# Altium integrated library ST Microcontroller 8-Bit.IntLib: 1326 symbols (part 42 of 45)
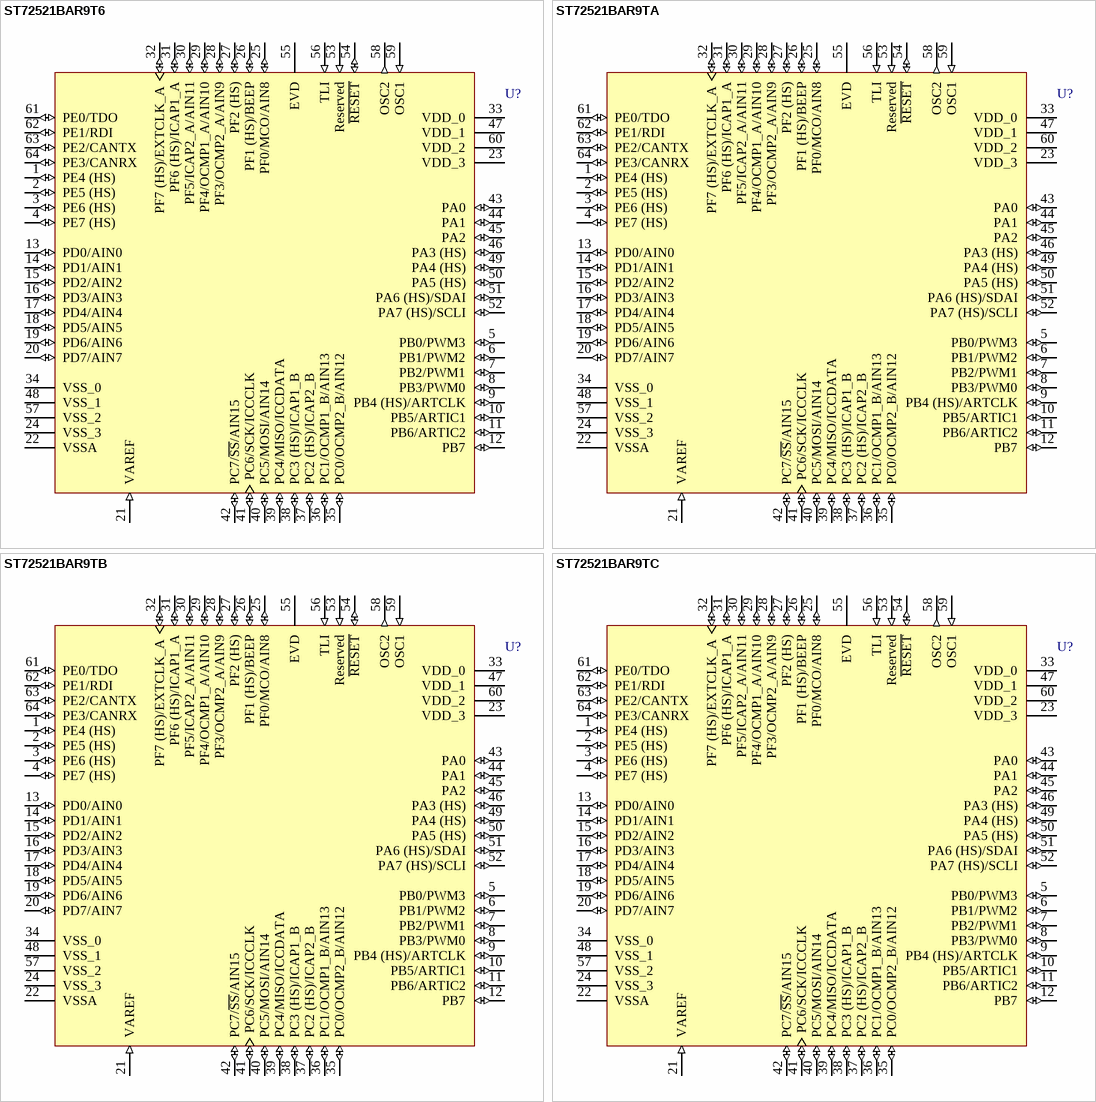
[diagram p208: symbols ST72521BAR9T6 to ST72521BAR9TC]

## ST72521BAR9T6
designator U?
8-Bit MCU with 60k ROM, 2048b RAM, Five Timers, SPI, SCI, I²C and CAN Interfaces, 64-Pin TQFP, Standard; Note: Pins 5-12, 25-27 and 43-46 are External Interrupt (EI) pins.; Note: Pin # 53 (Reserved) must be tied low.; Published: 26-May-2004; LatestRevisionDate: 13-Apr-2006; LatestRevisionNote: IPC-7351 Footprint Added.; DatasheetVersion: rev1.1, Oct-2003; PackageVersion: Jun-2003; PackageReference: TQFP64; Publisher: Altium Limited; PackageDescription: 64-Pin Thin Quad Flat Pack 0.5 mm Pitch; Code_JEDEC: MS-026; ComponentLink1Description: Manufacturer Link; ComponentLink1URL: http://www.st.com/; ComponentLink2Description: Datasheet; ComponentLink2URL: http://www.st.com/stonline/products/literature/ds/7601/st72521b.pdf
footprint TQFP64_N (Thin QFP, 64-Leads, Body 10x10mm, Pitch 0.5mm, IPC Medium Density)
footprint TQFP64_L (Thin QFP, 64-Leads, Body 10x10mm, Pitch 0.5mm, IPC High Density)
footprint TQFP64_M (Thin QFP, 64-Leads, Body 10x10mm, Pitch 0.5mm, IPC Low Density)
3D model ST72521B-TQFP64 (64-Pin Thin Quad Flat Pack 0.5 mm Pitch)
pins: 1 PE4 (HS) (io), 2 PE5 (HS) (io), 3 PE6 (HS) (io), 4 PE7 (HS) (io), 5 PB0/PWM3 (io), 6 PB1/PWM2 (io), 7 PB2/PWM1 (io), 8 PB3/PWM0 (io), 9 PB4 (HS)/ARTCLK (io), 10 PB5/ARTIC1 (io), 11 PB6/ARTIC2 (io), 12 PB7 (io), 13 PD0/AIN0 (io), 14 PD1/AIN1 (io), 15 PD2/AIN2 (io), 16 PD3/AIN3 (io), 17 PD4/AIN4 (io), 18 PD5/AIN5 (io), 19 PD6/AIN6 (io), 20 PD7/AIN7 (io), 21 VAREF (in), 22 VSSA (power), 23 VDD_3 (power), 24 VSS_3 (power), 25 PF0/MCO/AIN8 (io), 26 PF1 (HS)/BEEP (io), 27 PF2 (HS) (io), 28 PF3/OCMP2_A/AIN9 (io), 29 PF4/OCMP1_A/AIN10 (io), 30 PF5/ICAP2_A/AIN11 (io), 31 PF6 (HS)/ICAP1_A (io), 32 PF7 (HS)/EXTCLK_A (io), 33 VDD_0 (power), 34 VSS_0 (power), 35 PC0/OCMP2_B/AIN12 (io), 36 PC1/OCMP1_B/AIN13 (io), 37 PC2 (HS)/ICAP2_B (io), 38 PC3 (HS)/ICAP1_B (io), 39 PC4/MISO/ICCDATA (io), 40 PC5/MOSI/AIN14 (io), 41 PC6/SCK/ICCCLK (io), 42 PC7/~{SS}/AIN15 (io), 43 PA0 (io), 44 PA1 (io), 45 PA2 (io), 46 PA3 (HS) (io), 47 VDD_1 (power), 48 VSS_1 (power), 49 PA4 (HS) (io), 50 PA5 (HS) (io), 51 PA6 (HS)/SDAI (io), 52 PA7 (HS)/SCLI (io), 53 Reserved (in), 54 ~{RESET} (io), 55 EVD, 56 TLI (in), 57 VSS_2 (power), 58 OSC2 (out), 59 OSC1 (in), 60 VDD_2 (power), 61 PE0/TDO (io), 62 PE1/RDI (io), 63 PE2/CANTX (io), 64 PE3/CANRX (io)

## ST72521BAR9TA
designator U?
8-Bit MCU with 60k ROM, 2048b RAM, Five Timers, SPI, SCI, I²C and CAN Interfaces, 64-Pin TQFP, Automotive; Note: Pins 5-12, 25-27 and 43-46 are External Interrupt (EI) pins.; Note: Pin # 53 (Reserved) must be tied low.; Published: 26-May-2004; LatestRevisionDate: 13-Apr-2006; LatestRevisionNote: IPC-7351 Footprint Added.; DatasheetVersion: rev1.1, Oct-2003; PackageVersion: Jun-2003; PackageReference: TQFP64; Publisher: Altium Limited; PackageDescription: 64-Pin Thin Quad Flat Pack 0.5 mm Pitch; Code_JEDEC: MS-026; ComponentLink1Description: Manufacturer Link; ComponentLink1URL: http://www.st.com/; ComponentLink2Description: Datasheet; ComponentLink2URL: http://www.st.com/stonline/products/literature/ds/7601/st72521b.pdf
footprint TQFP64_N (Thin QFP, 64-Leads, Body 10x10mm, Pitch 0.5mm, IPC Medium Density)
footprint TQFP64_L (Thin QFP, 64-Leads, Body 10x10mm, Pitch 0.5mm, IPC High Density)
footprint TQFP64_M (Thin QFP, 64-Leads, Body 10x10mm, Pitch 0.5mm, IPC Low Density)
3D model ST72521B-TQFP64 (64-Pin Thin Quad Flat Pack 0.5 mm Pitch)
pins: 1 PE4 (HS) (io), 2 PE5 (HS) (io), 3 PE6 (HS) (io), 4 PE7 (HS) (io), 5 PB0/PWM3 (io), 6 PB1/PWM2 (io), 7 PB2/PWM1 (io), 8 PB3/PWM0 (io), 9 PB4 (HS)/ARTCLK (io), 10 PB5/ARTIC1 (io), 11 PB6/ARTIC2 (io), 12 PB7 (io), 13 PD0/AIN0 (io), 14 PD1/AIN1 (io), 15 PD2/AIN2 (io), 16 PD3/AIN3 (io), 17 PD4/AIN4 (io), 18 PD5/AIN5 (io), 19 PD6/AIN6 (io), 20 PD7/AIN7 (io), 21 VAREF (in), 22 VSSA (power), 23 VDD_3 (power), 24 VSS_3 (power), 25 PF0/MCO/AIN8 (io), 26 PF1 (HS)/BEEP (io), 27 PF2 (HS) (io), 28 PF3/OCMP2_A/AIN9 (io), 29 PF4/OCMP1_A/AIN10 (io), 30 PF5/ICAP2_A/AIN11 (io), 31 PF6 (HS)/ICAP1_A (io), 32 PF7 (HS)/EXTCLK_A (io), 33 VDD_0 (power), 34 VSS_0 (power), 35 PC0/OCMP2_B/AIN12 (io), 36 PC1/OCMP1_B/AIN13 (io), 37 PC2 (HS)/ICAP2_B (io), 38 PC3 (HS)/ICAP1_B (io), 39 PC4/MISO/ICCDATA (io), 40 PC5/MOSI/AIN14 (io), 41 PC6/SCK/ICCCLK (io), 42 PC7/~{SS}/AIN15 (io), 43 PA0 (io), 44 PA1 (io), 45 PA2 (io), 46 PA3 (HS) (io), 47 VDD_1 (power), 48 VSS_1 (power), 49 PA4 (HS) (io), 50 PA5 (HS) (io), 51 PA6 (HS)/SDAI (io), 52 PA7 (HS)/SCLI (io), 53 Reserved (in), 54 ~{RESET} (io), 55 EVD, 56 TLI (in), 57 VSS_2 (power), 58 OSC2 (out), 59 OSC1 (in), 60 VDD_2 (power), 61 PE0/TDO (io), 62 PE1/RDI (io), 63 PE2/CANTX (io), 64 PE3/CANRX (io)

## ST72521BAR9TB
designator U?
8-Bit MCU with 60k ROM, 2048b RAM, Five Timers, SPI, SCI, I²C and CAN Interfaces, 64-Pin TQFP, Automotive; Note: Pins 5-12, 25-27 and 43-46 are External Interrupt (EI) pins.; Note: Pin # 53 (Reserved) must be tied low.; Published: 26-May-2004; LatestRevisionDate: 13-Apr-2006; LatestRevisionNote: IPC-7351 Footprint Added.; DatasheetVersion: rev1.1, Oct-2003; PackageVersion: Jun-2003; PackageReference: TQFP64; Publisher: Altium Limited; PackageDescription: 64-Pin Thin Quad Flat Pack 0.5 mm Pitch; Code_JEDEC: MS-026; ComponentLink1Description: Manufacturer Link; ComponentLink1URL: http://www.st.com/; ComponentLink2Description: Datasheet; ComponentLink2URL: http://www.st.com/stonline/products/literature/ds/7601/st72521b.pdf
footprint TQFP64_N (Thin QFP, 64-Leads, Body 10x10mm, Pitch 0.5mm, IPC Medium Density)
footprint TQFP64_L (Thin QFP, 64-Leads, Body 10x10mm, Pitch 0.5mm, IPC High Density)
footprint TQFP64_M (Thin QFP, 64-Leads, Body 10x10mm, Pitch 0.5mm, IPC Low Density)
3D model ST72521B-TQFP64 (64-Pin Thin Quad Flat Pack 0.5 mm Pitch)
pins: 1 PE4 (HS) (io), 2 PE5 (HS) (io), 3 PE6 (HS) (io), 4 PE7 (HS) (io), 5 PB0/PWM3 (io), 6 PB1/PWM2 (io), 7 PB2/PWM1 (io), 8 PB3/PWM0 (io), 9 PB4 (HS)/ARTCLK (io), 10 PB5/ARTIC1 (io), 11 PB6/ARTIC2 (io), 12 PB7 (io), 13 PD0/AIN0 (io), 14 PD1/AIN1 (io), 15 PD2/AIN2 (io), 16 PD3/AIN3 (io), 17 PD4/AIN4 (io), 18 PD5/AIN5 (io), 19 PD6/AIN6 (io), 20 PD7/AIN7 (io), 21 VAREF (in), 22 VSSA (power), 23 VDD_3 (power), 24 VSS_3 (power), 25 PF0/MCO/AIN8 (io), 26 PF1 (HS)/BEEP (io), 27 PF2 (HS) (io), 28 PF3/OCMP2_A/AIN9 (io), 29 PF4/OCMP1_A/AIN10 (io), 30 PF5/ICAP2_A/AIN11 (io), 31 PF6 (HS)/ICAP1_A (io), 32 PF7 (HS)/EXTCLK_A (io), 33 VDD_0 (power), 34 VSS_0 (power), 35 PC0/OCMP2_B/AIN12 (io), 36 PC1/OCMP1_B/AIN13 (io), 37 PC2 (HS)/ICAP2_B (io), 38 PC3 (HS)/ICAP1_B (io), 39 PC4/MISO/ICCDATA (io), 40 PC5/MOSI/AIN14 (io), 41 PC6/SCK/ICCCLK (io), 42 PC7/~{SS}/AIN15 (io), 43 PA0 (io), 44 PA1 (io), 45 PA2 (io), 46 PA3 (HS) (io), 47 VDD_1 (power), 48 VSS_1 (power), 49 PA4 (HS) (io), 50 PA5 (HS) (io), 51 PA6 (HS)/SDAI (io), 52 PA7 (HS)/SCLI (io), 53 Reserved (in), 54 ~{RESET} (io), 55 EVD, 56 TLI (in), 57 VSS_2 (power), 58 OSC2 (out), 59 OSC1 (in), 60 VDD_2 (power), 61 PE0/TDO (io), 62 PE1/RDI (io), 63 PE2/CANTX (io), 64 PE3/CANRX (io)

## ST72521BAR9TC
designator U?
8-Bit MCU with 60k ROM, 2048b RAM, Five Timers, SPI, SCI, I²C and CAN Interfaces, 64-Pin TQFP, Automotive; Note: Pins 5-12, 25-27 and 43-46 are External Interrupt (EI) pins.; Note: Pin # 53 (Reserved) must be tied low.; Published: 26-May-2004; LatestRevisionDate: 13-Apr-2006; LatestRevisionNote: IPC-7351 Footprint Added.; DatasheetVersion: rev1.1, Oct-2003; PackageVersion: Jun-2003; PackageReference: TQFP64; Publisher: Altium Limited; PackageDescription: 64-Pin Thin Quad Flat Pack 0.5 mm Pitch; Code_JEDEC: MS-026; ComponentLink1Description: Manufacturer Link; ComponentLink1URL: http://www.st.com/; ComponentLink2Description: Datasheet; ComponentLink2URL: http://www.st.com/stonline/products/literature/ds/7601/st72521b.pdf
footprint TQFP64_N (Thin QFP, 64-Leads, Body 10x10mm, Pitch 0.5mm, IPC Medium Density)
footprint TQFP64_L (Thin QFP, 64-Leads, Body 10x10mm, Pitch 0.5mm, IPC High Density)
footprint TQFP64_M (Thin QFP, 64-Leads, Body 10x10mm, Pitch 0.5mm, IPC Low Density)
3D model ST72521B-TQFP64 (64-Pin Thin Quad Flat Pack 0.5 mm Pitch)
pins: 1 PE4 (HS) (io), 2 PE5 (HS) (io), 3 PE6 (HS) (io), 4 PE7 (HS) (io), 5 PB0/PWM3 (io), 6 PB1/PWM2 (io), 7 PB2/PWM1 (io), 8 PB3/PWM0 (io), 9 PB4 (HS)/ARTCLK (io), 10 PB5/ARTIC1 (io), 11 PB6/ARTIC2 (io), 12 PB7 (io), 13 PD0/AIN0 (io), 14 PD1/AIN1 (io), 15 PD2/AIN2 (io), 16 PD3/AIN3 (io), 17 PD4/AIN4 (io), 18 PD5/AIN5 (io), 19 PD6/AIN6 (io), 20 PD7/AIN7 (io), 21 VAREF (in), 22 VSSA (power), 23 VDD_3 (power), 24 VSS_3 (power), 25 PF0/MCO/AIN8 (io), 26 PF1 (HS)/BEEP (io), 27 PF2 (HS) (io), 28 PF3/OCMP2_A/AIN9 (io), 29 PF4/OCMP1_A/AIN10 (io), 30 PF5/ICAP2_A/AIN11 (io), 31 PF6 (HS)/ICAP1_A (io), 32 PF7 (HS)/EXTCLK_A (io), 33 VDD_0 (power), 34 VSS_0 (power), 35 PC0/OCMP2_B/AIN12 (io), 36 PC1/OCMP1_B/AIN13 (io), 37 PC2 (HS)/ICAP2_B (io), 38 PC3 (HS)/ICAP1_B (io), 39 PC4/MISO/ICCDATA (io), 40 PC5/MOSI/AIN14 (io), 41 PC6/SCK/ICCCLK (io), 42 PC7/~{SS}/AIN15 (io), 43 PA0 (io), 44 PA1 (io), 45 PA2 (io), 46 PA3 (HS) (io), 47 VDD_1 (power), 48 VSS_1 (power), 49 PA4 (HS) (io), 50 PA5 (HS) (io), 51 PA6 (HS)/SDAI (io), 52 PA7 (HS)/SCLI (io), 53 Reserved (in), 54 ~{RESET} (io), 55 EVD, 56 TLI (in), 57 VSS_2 (power), 58 OSC2 (out), 59 OSC1 (in), 60 VDD_2 (power), 61 PE0/TDO (io), 62 PE1/RDI (io), 63 PE2/CANTX (io), 64 PE3/CANRX (io)

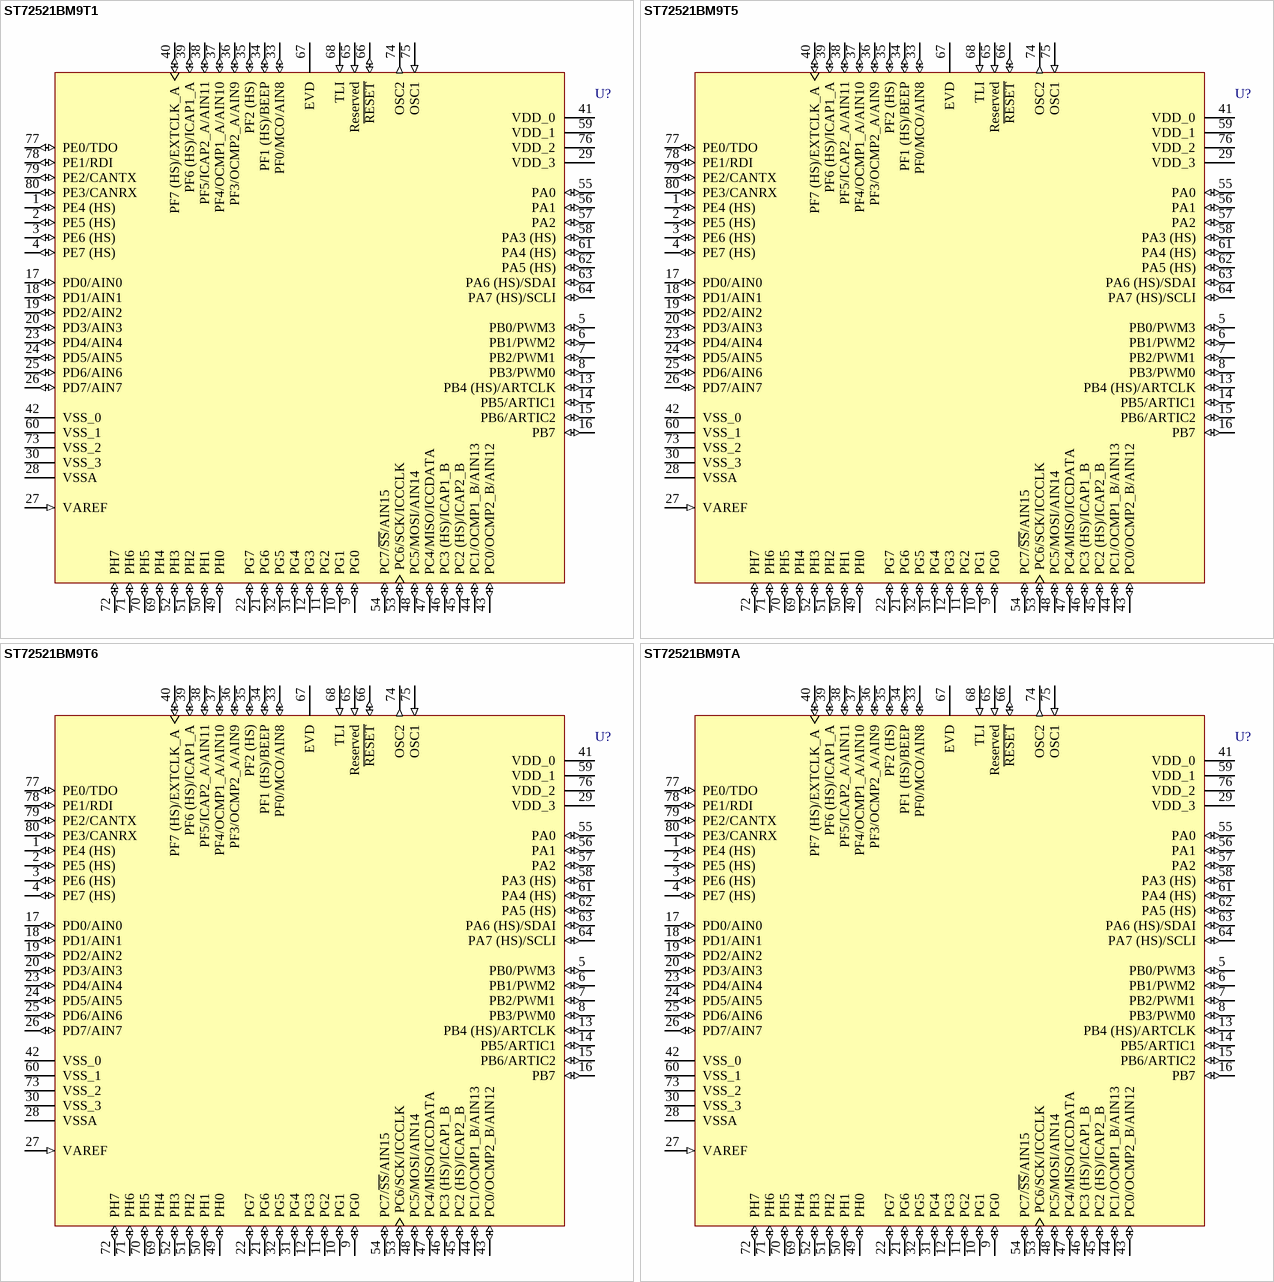
[diagram p151: symbols ST72521BM9T1 to ST72521BM9TA]

## ST72521BM9T1
designator U?
8-Bit MCU with 60k ROM, 2048b RAM, Five Timers, SPI, SCI, I²C and CAN Interfaces, 80-Pin TQFP, Standard; Note: Pins 5-8, 13-16, 33-35 and 55-58 are External Interrupt (EI) pins.; Note: Pin # 65 (Reserved) must be tied low.; Published: 26-May-2004; LatestRevisionDate: 13-Apr-2006; LatestRevisionNote: IPC-7351 Footprint Added.; DatasheetVersion: rev1.1, Oct-2003; PackageVersion: Jan-2001; PackageReference: TQFP80; Publisher: Altium Limited; PackageDescription: 80-Pin Thin Plastic Quad Flat Pack 0.65 mm Pitch; ComponentLink1Description: Manufacturer Link; ComponentLink1URL: http://www.st.com/; ComponentLink2Description: Datasheet; ComponentLink2URL: http://www.st.com/stonline/products/literature/ds/7601/st72521b.pdf
footprint TQFP80_N (Thin QFP, 80-Leads, Body 14 x 14mm, Pitch 0.65mm, IPC Medium Density)
footprint TQFP80_L (Thin QFP, 80-Leads, Body 14 x 14mm, Pitch 0.65mm, IPC High Density)
footprint TQFP80_M (Thin QFP, 80-Leads, Body 14 x 14mm, Pitch 0.65mm, IPC Low Density)
3D model ST72521B-TQFP80 (80-Pin Thin Plastic Quad Flat Pack 0.65 mm Pitch)
pins: 1 PE4 (HS) (io), 2 PE5 (HS) (io), 3 PE6 (HS) (io), 4 PE7 (HS) (io), 5 PB0/PWM3 (io), 6 PB1/PWM2 (io), 7 PB2/PWM1 (io), 8 PB3/PWM0 (io), 9 PG0 (io), 10 PG1 (io), 11 PG2 (io), 12 PG3 (io), 13 PB4 (HS)/ARTCLK (io), 14 PB5/ARTIC1 (io), 15 PB6/ARTIC2 (io), 16 PB7 (io), 17 PD0/AIN0 (io), 18 PD1/AIN1 (io), 19 PD2/AIN2 (io), 20 PD3/AIN3 (io), 21 PG6 (io), 22 PG7 (io), 23 PD4/AIN4 (io), 24 PD5/AIN5 (io), 25 PD6/AIN6 (io), 26 PD7/AIN7 (io), 27 VAREF (in), 28 VSSA (power), 29 VDD_3 (power), 30 VSS_3 (power), 31 PG4 (io), 32 PG5 (io), 33 PF0/MCO/AIN8 (io), 34 PF1 (HS)/BEEP (io), 35 PF2 (HS) (io), 36 PF3/OCMP2_A/AIN9 (io), 37 PF4/OCMP1_A/AIN10 (io), 38 PF5/ICAP2_A/AIN11 (io), 39 PF6 (HS)/ICAP1_A (io), 40 PF7 (HS)/EXTCLK_A (io), 41 VDD_0 (power), 42 VSS_0 (power), 43 PC0/OCMP2_B/AIN12 (io), 44 PC1/OCMP1_B/AIN13 (io), 45 PC2 (HS)/ICAP2_B (io), 46 PC3 (HS)/ICAP1_B (io), 47 PC4/MISO/ICCDATA (io), 48 PC5/MOSI/AIN14 (io), 49 PH0 (io), 50 PH1 (io), 51 PH2 (io), 52 PH3 (io), 53 PC6/SCK/ICCCLK (io), 54 PC7/~{SS}/AIN15 (io), 55 PA0 (io), 56 PA1 (io), 57 PA2 (io), 58 PA3 (HS) (io), 59 VDD_1 (power), 60 VSS_1 (power), 61 PA4 (HS) (io), 62 PA5 (HS) (io), 63 PA6 (HS)/SDAI (io), 64 PA7 (HS)/SCLI (io), 65 Reserved (in), 66 ~{RESET} (io), 67 EVD, 68 TLI (in), 69 PH4 (io), 70 PH5 (io), 71 PH6 (io), 72 PH7 (io), 73 VSS_2 (power), 74 OSC2 (out), 75 OSC1 (in), 76 VDD_2 (power), 77 PE0/TDO (io), 78 PE1/RDI (io), 79 PE2/CANTX (io), 80 PE3/CANRX (io)

## ST72521BM9T5
designator U?
8-Bit MCU with 60k ROM, 2048b RAM, Five Timers, SPI, SCI, I²C and CAN Interfaces, 80-Pin TQFP, Standard; Note: Pins 5-8, 13-16, 33-35 and 55-58 are External Interrupt (EI) pins.; Note: Pin # 65 (Reserved) must be tied low.; Published: 26-May-2004; LatestRevisionDate: 13-Apr-2006; LatestRevisionNote: IPC-7351 Footprint Added.; DatasheetVersion: rev1.1, Oct-2003; PackageVersion: Jan-2001; PackageReference: TQFP80; Publisher: Altium Limited; PackageDescription: 80-Pin Thin Plastic Quad Flat Pack 0.65 mm Pitch; ComponentLink1Description: Manufacturer Link; ComponentLink1URL: http://www.st.com/; ComponentLink2Description: Datasheet; ComponentLink2URL: http://www.st.com/stonline/products/literature/ds/7601/st72521b.pdf
footprint TQFP80_N (Thin QFP, 80-Leads, Body 14 x 14mm, Pitch 0.65mm, IPC Medium Density)
footprint TQFP80_L (Thin QFP, 80-Leads, Body 14 x 14mm, Pitch 0.65mm, IPC High Density)
footprint TQFP80_M (Thin QFP, 80-Leads, Body 14 x 14mm, Pitch 0.65mm, IPC Low Density)
3D model ST72521B-TQFP80 (80-Pin Thin Plastic Quad Flat Pack 0.65 mm Pitch)
pins: 1 PE4 (HS) (io), 2 PE5 (HS) (io), 3 PE6 (HS) (io), 4 PE7 (HS) (io), 5 PB0/PWM3 (io), 6 PB1/PWM2 (io), 7 PB2/PWM1 (io), 8 PB3/PWM0 (io), 9 PG0 (io), 10 PG1 (io), 11 PG2 (io), 12 PG3 (io), 13 PB4 (HS)/ARTCLK (io), 14 PB5/ARTIC1 (io), 15 PB6/ARTIC2 (io), 16 PB7 (io), 17 PD0/AIN0 (io), 18 PD1/AIN1 (io), 19 PD2/AIN2 (io), 20 PD3/AIN3 (io), 21 PG6 (io), 22 PG7 (io), 23 PD4/AIN4 (io), 24 PD5/AIN5 (io), 25 PD6/AIN6 (io), 26 PD7/AIN7 (io), 27 VAREF (in), 28 VSSA (power), 29 VDD_3 (power), 30 VSS_3 (power), 31 PG4 (io), 32 PG5 (io), 33 PF0/MCO/AIN8 (io), 34 PF1 (HS)/BEEP (io), 35 PF2 (HS) (io), 36 PF3/OCMP2_A/AIN9 (io), 37 PF4/OCMP1_A/AIN10 (io), 38 PF5/ICAP2_A/AIN11 (io), 39 PF6 (HS)/ICAP1_A (io), 40 PF7 (HS)/EXTCLK_A (io), 41 VDD_0 (power), 42 VSS_0 (power), 43 PC0/OCMP2_B/AIN12 (io), 44 PC1/OCMP1_B/AIN13 (io), 45 PC2 (HS)/ICAP2_B (io), 46 PC3 (HS)/ICAP1_B (io), 47 PC4/MISO/ICCDATA (io), 48 PC5/MOSI/AIN14 (io), 49 PH0 (io), 50 PH1 (io), 51 PH2 (io), 52 PH3 (io), 53 PC6/SCK/ICCCLK (io), 54 PC7/~{SS}/AIN15 (io), 55 PA0 (io), 56 PA1 (io), 57 PA2 (io), 58 PA3 (HS) (io), 59 VDD_1 (power), 60 VSS_1 (power), 61 PA4 (HS) (io), 62 PA5 (HS) (io), 63 PA6 (HS)/SDAI (io), 64 PA7 (HS)/SCLI (io), 65 Reserved (in), 66 ~{RESET} (io), 67 EVD, 68 TLI (in), 69 PH4 (io), 70 PH5 (io), 71 PH6 (io), 72 PH7 (io), 73 VSS_2 (power), 74 OSC2 (out), 75 OSC1 (in), 76 VDD_2 (power), 77 PE0/TDO (io), 78 PE1/RDI (io), 79 PE2/CANTX (io), 80 PE3/CANRX (io)

## ST72521BM9T6
designator U?
8-Bit MCU with 60k ROM, 2048b RAM, Five Timers, SPI, SCI, I²C and CAN Interfaces, 80-Pin TQFP, Standard; Note: Pins 5-8, 13-16, 33-35 and 55-58 are External Interrupt (EI) pins.; Note: Pin # 65 (Reserved) must be tied low.; Published: 26-May-2004; LatestRevisionDate: 13-Apr-2006; LatestRevisionNote: IPC-7351 Footprint Added.; DatasheetVersion: rev1.1, Oct-2003; PackageVersion: Jan-2001; PackageReference: TQFP80; Publisher: Altium Limited; PackageDescription: 80-Pin Thin Plastic Quad Flat Pack 0.65 mm Pitch; ComponentLink1Description: Manufacturer Link; ComponentLink1URL: http://www.st.com/; ComponentLink2Description: Datasheet; ComponentLink2URL: http://www.st.com/stonline/products/literature/ds/7601/st72521b.pdf
footprint TQFP80_N (Thin QFP, 80-Leads, Body 14 x 14mm, Pitch 0.65mm, IPC Medium Density)
footprint TQFP80_L (Thin QFP, 80-Leads, Body 14 x 14mm, Pitch 0.65mm, IPC High Density)
footprint TQFP80_M (Thin QFP, 80-Leads, Body 14 x 14mm, Pitch 0.65mm, IPC Low Density)
3D model ST72521B-TQFP80 (80-Pin Thin Plastic Quad Flat Pack 0.65 mm Pitch)
pins: 1 PE4 (HS) (io), 2 PE5 (HS) (io), 3 PE6 (HS) (io), 4 PE7 (HS) (io), 5 PB0/PWM3 (io), 6 PB1/PWM2 (io), 7 PB2/PWM1 (io), 8 PB3/PWM0 (io), 9 PG0 (io), 10 PG1 (io), 11 PG2 (io), 12 PG3 (io), 13 PB4 (HS)/ARTCLK (io), 14 PB5/ARTIC1 (io), 15 PB6/ARTIC2 (io), 16 PB7 (io), 17 PD0/AIN0 (io), 18 PD1/AIN1 (io), 19 PD2/AIN2 (io), 20 PD3/AIN3 (io), 21 PG6 (io), 22 PG7 (io), 23 PD4/AIN4 (io), 24 PD5/AIN5 (io), 25 PD6/AIN6 (io), 26 PD7/AIN7 (io), 27 VAREF (in), 28 VSSA (power), 29 VDD_3 (power), 30 VSS_3 (power), 31 PG4 (io), 32 PG5 (io), 33 PF0/MCO/AIN8 (io), 34 PF1 (HS)/BEEP (io), 35 PF2 (HS) (io), 36 PF3/OCMP2_A/AIN9 (io), 37 PF4/OCMP1_A/AIN10 (io), 38 PF5/ICAP2_A/AIN11 (io), 39 PF6 (HS)/ICAP1_A (io), 40 PF7 (HS)/EXTCLK_A (io), 41 VDD_0 (power), 42 VSS_0 (power), 43 PC0/OCMP2_B/AIN12 (io), 44 PC1/OCMP1_B/AIN13 (io), 45 PC2 (HS)/ICAP2_B (io), 46 PC3 (HS)/ICAP1_B (io), 47 PC4/MISO/ICCDATA (io), 48 PC5/MOSI/AIN14 (io), 49 PH0 (io), 50 PH1 (io), 51 PH2 (io), 52 PH3 (io), 53 PC6/SCK/ICCCLK (io), 54 PC7/~{SS}/AIN15 (io), 55 PA0 (io), 56 PA1 (io), 57 PA2 (io), 58 PA3 (HS) (io), 59 VDD_1 (power), 60 VSS_1 (power), 61 PA4 (HS) (io), 62 PA5 (HS) (io), 63 PA6 (HS)/SDAI (io), 64 PA7 (HS)/SCLI (io), 65 Reserved (in), 66 ~{RESET} (io), 67 EVD, 68 TLI (in), 69 PH4 (io), 70 PH5 (io), 71 PH6 (io), 72 PH7 (io), 73 VSS_2 (power), 74 OSC2 (out), 75 OSC1 (in), 76 VDD_2 (power), 77 PE0/TDO (io), 78 PE1/RDI (io), 79 PE2/CANTX (io), 80 PE3/CANRX (io)

## ST72521BM9TA
designator U?
8-Bit MCU with 60k ROM, 2048b RAM, Five Timers, SPI, SCI, I²C and CAN Interfaces, 80-Pin TQFP, Automotive; Note: Pins 5-8, 13-16, 33-35 and 55-58 are External Interrupt (EI) pins.; Note: Pin # 65 (Reserved) must be tied low.; Published: 26-May-2004; LatestRevisionDate: 13-Apr-2006; LatestRevisionNote: IPC-7351 Footprint Added.; DatasheetVersion: rev1.1, Oct-2003; PackageVersion: Jan-2001; PackageReference: TQFP80; Publisher: Altium Limited; PackageDescription: 80-Pin Thin Plastic Quad Flat Pack 0.65 mm Pitch; ComponentLink1Description: Manufacturer Link; ComponentLink1URL: http://www.st.com/; ComponentLink2Description: Datasheet; ComponentLink2URL: http://www.st.com/stonline/products/literature/ds/7601/st72521b.pdf
footprint TQFP80_N (Thin QFP, 80-Leads, Body 14 x 14mm, Pitch 0.65mm, IPC Medium Density)
footprint TQFP80_L (Thin QFP, 80-Leads, Body 14 x 14mm, Pitch 0.65mm, IPC High Density)
footprint TQFP80_M (Thin QFP, 80-Leads, Body 14 x 14mm, Pitch 0.65mm, IPC Low Density)
3D model ST72521B-TQFP80 (80-Pin Thin Plastic Quad Flat Pack 0.65 mm Pitch)
pins: 1 PE4 (HS) (io), 2 PE5 (HS) (io), 3 PE6 (HS) (io), 4 PE7 (HS) (io), 5 PB0/PWM3 (io), 6 PB1/PWM2 (io), 7 PB2/PWM1 (io), 8 PB3/PWM0 (io), 9 PG0 (io), 10 PG1 (io), 11 PG2 (io), 12 PG3 (io), 13 PB4 (HS)/ARTCLK (io), 14 PB5/ARTIC1 (io), 15 PB6/ARTIC2 (io), 16 PB7 (io), 17 PD0/AIN0 (io), 18 PD1/AIN1 (io), 19 PD2/AIN2 (io), 20 PD3/AIN3 (io), 21 PG6 (io), 22 PG7 (io), 23 PD4/AIN4 (io), 24 PD5/AIN5 (io), 25 PD6/AIN6 (io), 26 PD7/AIN7 (io), 27 VAREF (in), 28 VSSA (power), 29 VDD_3 (power), 30 VSS_3 (power), 31 PG4 (io), 32 PG5 (io), 33 PF0/MCO/AIN8 (io), 34 PF1 (HS)/BEEP (io), 35 PF2 (HS) (io), 36 PF3/OCMP2_A/AIN9 (io), 37 PF4/OCMP1_A/AIN10 (io), 38 PF5/ICAP2_A/AIN11 (io), 39 PF6 (HS)/ICAP1_A (io), 40 PF7 (HS)/EXTCLK_A (io), 41 VDD_0 (power), 42 VSS_0 (power), 43 PC0/OCMP2_B/AIN12 (io), 44 PC1/OCMP1_B/AIN13 (io), 45 PC2 (HS)/ICAP2_B (io), 46 PC3 (HS)/ICAP1_B (io), 47 PC4/MISO/ICCDATA (io), 48 PC5/MOSI/AIN14 (io), 49 PH0 (io), 50 PH1 (io), 51 PH2 (io), 52 PH3 (io), 53 PC6/SCK/ICCCLK (io), 54 PC7/~{SS}/AIN15 (io), 55 PA0 (io), 56 PA1 (io), 57 PA2 (io), 58 PA3 (HS) (io), 59 VDD_1 (power), 60 VSS_1 (power), 61 PA4 (HS) (io), 62 PA5 (HS) (io), 63 PA6 (HS)/SDAI (io), 64 PA7 (HS)/SCLI (io), 65 Reserved (in), 66 ~{RESET} (io), 67 EVD, 68 TLI (in), 69 PH4 (io), 70 PH5 (io), 71 PH6 (io), 72 PH7 (io), 73 VSS_2 (power), 74 OSC2 (out), 75 OSC1 (in), 76 VDD_2 (power), 77 PE0/TDO (io), 78 PE1/RDI (io), 79 PE2/CANTX (io), 80 PE3/CANRX (io)

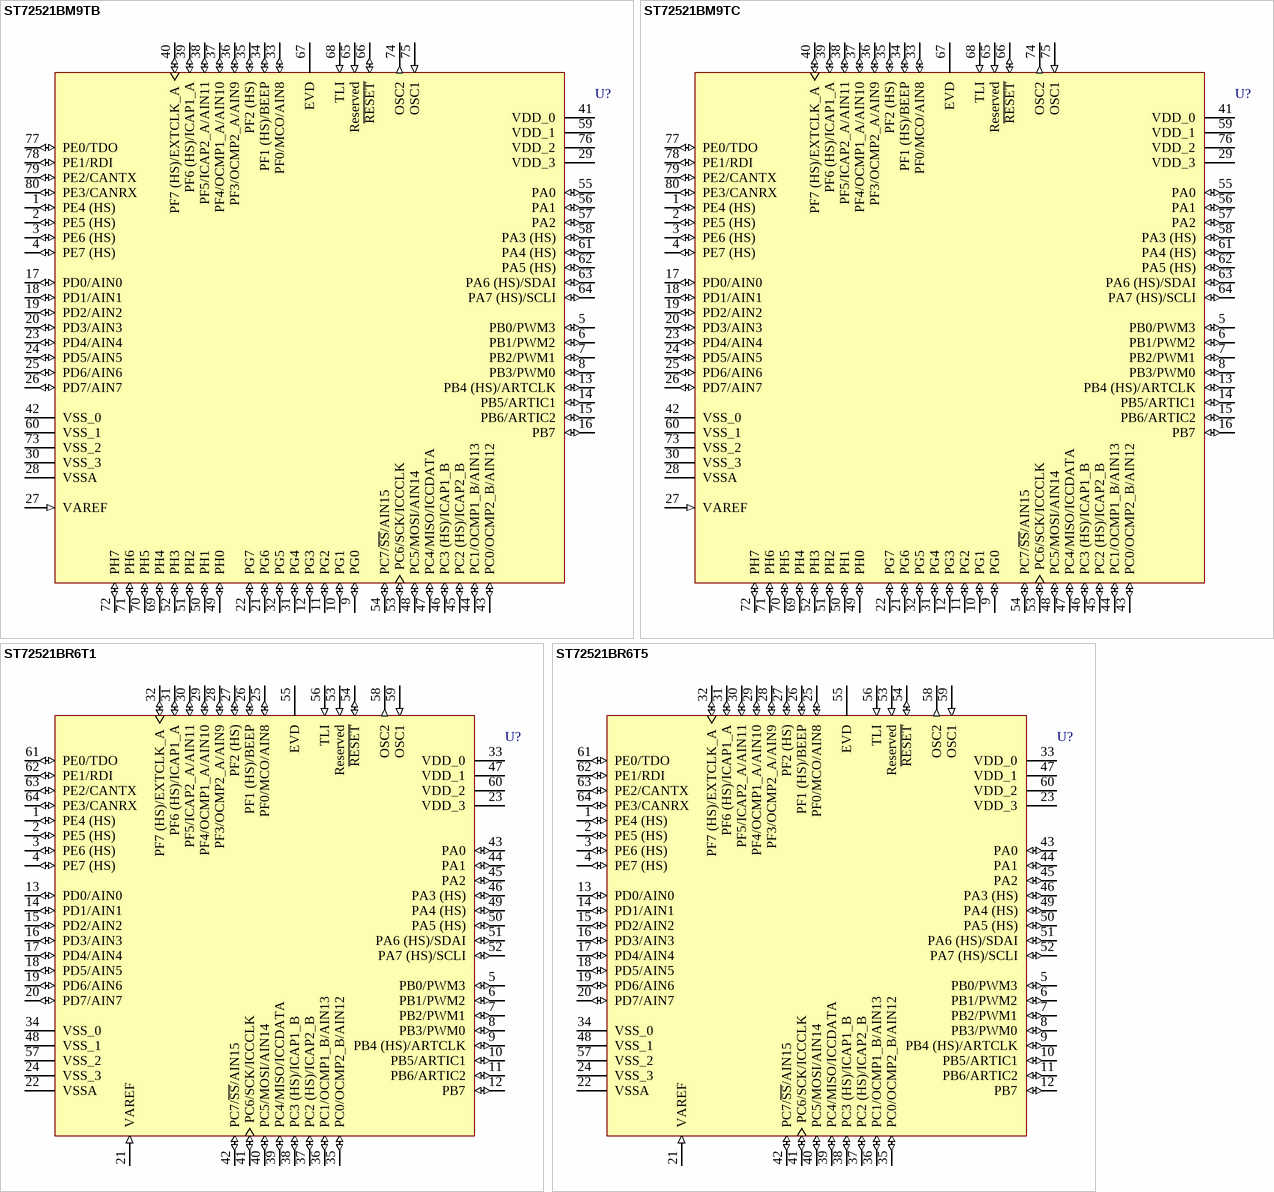
[diagram p152: symbols ST72521BM9TB to ST72521BR6T5]

## ST72521BM9TB
designator U?
8-Bit MCU with 60k ROM, 2048b RAM, Five Timers, SPI, SCI, I²C and CAN Interfaces, 80-Pin TQFP, Automotive; Note: Pins 5-8, 13-16, 33-35 and 55-58 are External Interrupt (EI) pins.; Note: Pin # 65 (Reserved) must be tied low.; Published: 26-May-2004; LatestRevisionDate: 13-Apr-2006; LatestRevisionNote: IPC-7351 Footprint Added.; DatasheetVersion: rev1.1, Oct-2003; PackageVersion: Jan-2001; PackageReference: TQFP80; Publisher: Altium Limited; PackageDescription: 80-Pin Thin Plastic Quad Flat Pack 0.65 mm Pitch; ComponentLink1Description: Manufacturer Link; ComponentLink1URL: http://www.st.com/; ComponentLink2Description: Datasheet; ComponentLink2URL: http://www.st.com/stonline/products/literature/ds/7601/st72521b.pdf
footprint TQFP80_N (Thin QFP, 80-Leads, Body 14 x 14mm, Pitch 0.65mm, IPC Medium Density)
footprint TQFP80_L (Thin QFP, 80-Leads, Body 14 x 14mm, Pitch 0.65mm, IPC High Density)
footprint TQFP80_M (Thin QFP, 80-Leads, Body 14 x 14mm, Pitch 0.65mm, IPC Low Density)
3D model ST72521B-TQFP80 (80-Pin Thin Plastic Quad Flat Pack 0.65 mm Pitch)
pins: 1 PE4 (HS) (io), 2 PE5 (HS) (io), 3 PE6 (HS) (io), 4 PE7 (HS) (io), 5 PB0/PWM3 (io), 6 PB1/PWM2 (io), 7 PB2/PWM1 (io), 8 PB3/PWM0 (io), 9 PG0 (io), 10 PG1 (io), 11 PG2 (io), 12 PG3 (io), 13 PB4 (HS)/ARTCLK (io), 14 PB5/ARTIC1 (io), 15 PB6/ARTIC2 (io), 16 PB7 (io), 17 PD0/AIN0 (io), 18 PD1/AIN1 (io), 19 PD2/AIN2 (io), 20 PD3/AIN3 (io), 21 PG6 (io), 22 PG7 (io), 23 PD4/AIN4 (io), 24 PD5/AIN5 (io), 25 PD6/AIN6 (io), 26 PD7/AIN7 (io), 27 VAREF (in), 28 VSSA (power), 29 VDD_3 (power), 30 VSS_3 (power), 31 PG4 (io), 32 PG5 (io), 33 PF0/MCO/AIN8 (io), 34 PF1 (HS)/BEEP (io), 35 PF2 (HS) (io), 36 PF3/OCMP2_A/AIN9 (io), 37 PF4/OCMP1_A/AIN10 (io), 38 PF5/ICAP2_A/AIN11 (io), 39 PF6 (HS)/ICAP1_A (io), 40 PF7 (HS)/EXTCLK_A (io), 41 VDD_0 (power), 42 VSS_0 (power), 43 PC0/OCMP2_B/AIN12 (io), 44 PC1/OCMP1_B/AIN13 (io), 45 PC2 (HS)/ICAP2_B (io), 46 PC3 (HS)/ICAP1_B (io), 47 PC4/MISO/ICCDATA (io), 48 PC5/MOSI/AIN14 (io), 49 PH0 (io), 50 PH1 (io), 51 PH2 (io), 52 PH3 (io), 53 PC6/SCK/ICCCLK (io), 54 PC7/~{SS}/AIN15 (io), 55 PA0 (io), 56 PA1 (io), 57 PA2 (io), 58 PA3 (HS) (io), 59 VDD_1 (power), 60 VSS_1 (power), 61 PA4 (HS) (io), 62 PA5 (HS) (io), 63 PA6 (HS)/SDAI (io), 64 PA7 (HS)/SCLI (io), 65 Reserved (in), 66 ~{RESET} (io), 67 EVD, 68 TLI (in), 69 PH4 (io), 70 PH5 (io), 71 PH6 (io), 72 PH7 (io), 73 VSS_2 (power), 74 OSC2 (out), 75 OSC1 (in), 76 VDD_2 (power), 77 PE0/TDO (io), 78 PE1/RDI (io), 79 PE2/CANTX (io), 80 PE3/CANRX (io)

## ST72521BM9TC
designator U?
8-Bit MCU with 60k ROM, 2048b RAM, Five Timers, SPI, SCI, I²C and CAN Interfaces, 80-Pin TQFP, Automotive; Note: Pins 5-8, 13-16, 33-35 and 55-58 are External Interrupt (EI) pins.; Note: Pin # 65 (Reserved) must be tied low.; Published: 26-May-2004; LatestRevisionDate: 13-Apr-2006; LatestRevisionNote: IPC-7351 Footprint Added.; DatasheetVersion: rev1.1, Oct-2003; PackageVersion: Jan-2001; PackageReference: TQFP80; Publisher: Altium Limited; PackageDescription: 80-Pin Thin Plastic Quad Flat Pack 0.65 mm Pitch; ComponentLink1Description: Manufacturer Link; ComponentLink1URL: http://www.st.com/; ComponentLink2Description: Datasheet; ComponentLink2URL: http://www.st.com/stonline/products/literature/ds/7601/st72521b.pdf
footprint TQFP80_N (Thin QFP, 80-Leads, Body 14 x 14mm, Pitch 0.65mm, IPC Medium Density)
footprint TQFP80_L (Thin QFP, 80-Leads, Body 14 x 14mm, Pitch 0.65mm, IPC High Density)
footprint TQFP80_M (Thin QFP, 80-Leads, Body 14 x 14mm, Pitch 0.65mm, IPC Low Density)
3D model ST72521B-TQFP80 (80-Pin Thin Plastic Quad Flat Pack 0.65 mm Pitch)
pins: 1 PE4 (HS) (io), 2 PE5 (HS) (io), 3 PE6 (HS) (io), 4 PE7 (HS) (io), 5 PB0/PWM3 (io), 6 PB1/PWM2 (io), 7 PB2/PWM1 (io), 8 PB3/PWM0 (io), 9 PG0 (io), 10 PG1 (io), 11 PG2 (io), 12 PG3 (io), 13 PB4 (HS)/ARTCLK (io), 14 PB5/ARTIC1 (io), 15 PB6/ARTIC2 (io), 16 PB7 (io), 17 PD0/AIN0 (io), 18 PD1/AIN1 (io), 19 PD2/AIN2 (io), 20 PD3/AIN3 (io), 21 PG6 (io), 22 PG7 (io), 23 PD4/AIN4 (io), 24 PD5/AIN5 (io), 25 PD6/AIN6 (io), 26 PD7/AIN7 (io), 27 VAREF (in), 28 VSSA (power), 29 VDD_3 (power), 30 VSS_3 (power), 31 PG4 (io), 32 PG5 (io), 33 PF0/MCO/AIN8 (io), 34 PF1 (HS)/BEEP (io), 35 PF2 (HS) (io), 36 PF3/OCMP2_A/AIN9 (io), 37 PF4/OCMP1_A/AIN10 (io), 38 PF5/ICAP2_A/AIN11 (io), 39 PF6 (HS)/ICAP1_A (io), 40 PF7 (HS)/EXTCLK_A (io), 41 VDD_0 (power), 42 VSS_0 (power), 43 PC0/OCMP2_B/AIN12 (io), 44 PC1/OCMP1_B/AIN13 (io), 45 PC2 (HS)/ICAP2_B (io), 46 PC3 (HS)/ICAP1_B (io), 47 PC4/MISO/ICCDATA (io), 48 PC5/MOSI/AIN14 (io), 49 PH0 (io), 50 PH1 (io), 51 PH2 (io), 52 PH3 (io), 53 PC6/SCK/ICCCLK (io), 54 PC7/~{SS}/AIN15 (io), 55 PA0 (io), 56 PA1 (io), 57 PA2 (io), 58 PA3 (HS) (io), 59 VDD_1 (power), 60 VSS_1 (power), 61 PA4 (HS) (io), 62 PA5 (HS) (io), 63 PA6 (HS)/SDAI (io), 64 PA7 (HS)/SCLI (io), 65 Reserved (in), 66 ~{RESET} (io), 67 EVD, 68 TLI (in), 69 PH4 (io), 70 PH5 (io), 71 PH6 (io), 72 PH7 (io), 73 VSS_2 (power), 74 OSC2 (out), 75 OSC1 (in), 76 VDD_2 (power), 77 PE0/TDO (io), 78 PE1/RDI (io), 79 PE2/CANTX (io), 80 PE3/CANRX (io)

## ST72521BR6T1
designator U?
8-Bit MCU with 32k ROM, 1024b RAM, Five Timers, SPI, SCI, I²C and CAN Interfaces, 64-Pin TQFP, Standard; Note: Pins 5-12, 25-27 and 43-46 are External Interrupt (EI) pins.; Note: Pin # 53 (Reserved) must be tied low.; Published: 26-May-2004; LatestRevisionDate: 13-Apr-2006; LatestRevisionNote: IPC-7351 Footprint Added.; DatasheetVersion: rev1.1, Oct-2003; PackageVersion: rev2.4, Jan-2002; PackageReference: TQFP64-0.8; Publisher: Altium Limited; PackageDescription: 64-Pin Thin Quad Flat Pack 0.8 mm Pitch; ComponentLink1Description: Manufacturer Link; ComponentLink1URL: http://www.st.com/; ComponentLink2Description: Datasheet; ComponentLink2URL: http://www.st.com/stonline/products/literature/ds/7601/st72521b.pdf
footprint TQFP64-0.8_N (Thin QFP, 64-Leads, Body 14x14mm, Pitch 0.8mm, IPC Medium Density)
footprint TQFP64-0.8_L (Thin QFP, 64-Leads, Body 14x14mm, Pitch 0.8mm, IPC High Density)
footprint TQFP64-0.8_M (Thin QFP, 64-Leads, Body 14x14mm, Pitch 0.8mm, IPC Low Density)
3D model ST72521B-TQFP64-0_8 (64-Pin Thin Quad Flat Pack 0.8 mm Pitch)
pins: 1 PE4 (HS) (io), 2 PE5 (HS) (io), 3 PE6 (HS) (io), 4 PE7 (HS) (io), 5 PB0/PWM3 (io), 6 PB1/PWM2 (io), 7 PB2/PWM1 (io), 8 PB3/PWM0 (io), 9 PB4 (HS)/ARTCLK (io), 10 PB5/ARTIC1 (io), 11 PB6/ARTIC2 (io), 12 PB7 (io), 13 PD0/AIN0 (io), 14 PD1/AIN1 (io), 15 PD2/AIN2 (io), 16 PD3/AIN3 (io), 17 PD4/AIN4 (io), 18 PD5/AIN5 (io), 19 PD6/AIN6 (io), 20 PD7/AIN7 (io), 21 VAREF (in), 22 VSSA (power), 23 VDD_3 (power), 24 VSS_3 (power), 25 PF0/MCO/AIN8 (io), 26 PF1 (HS)/BEEP (io), 27 PF2 (HS) (io), 28 PF3/OCMP2_A/AIN9 (io), 29 PF4/OCMP1_A/AIN10 (io), 30 PF5/ICAP2_A/AIN11 (io), 31 PF6 (HS)/ICAP1_A (io), 32 PF7 (HS)/EXTCLK_A (io), 33 VDD_0 (power), 34 VSS_0 (power), 35 PC0/OCMP2_B/AIN12 (io), 36 PC1/OCMP1_B/AIN13 (io), 37 PC2 (HS)/ICAP2_B (io), 38 PC3 (HS)/ICAP1_B (io), 39 PC4/MISO/ICCDATA (io), 40 PC5/MOSI/AIN14 (io), 41 PC6/SCK/ICCCLK (io), 42 PC7/~{SS}/AIN15 (io), 43 PA0 (io), 44 PA1 (io), 45 PA2 (io), 46 PA3 (HS) (io), 47 VDD_1 (power), 48 VSS_1 (power), 49 PA4 (HS) (io), 50 PA5 (HS) (io), 51 PA6 (HS)/SDAI (io), 52 PA7 (HS)/SCLI (io), 53 Reserved (in), 54 ~{RESET} (io), 55 EVD, 56 TLI (in), 57 VSS_2 (power), 58 OSC2 (out), 59 OSC1 (in), 60 VDD_2 (power), 61 PE0/TDO (io), 62 PE1/RDI (io), 63 PE2/CANTX (io), 64 PE3/CANRX (io)

## ST72521BR6T5
designator U?
8-Bit MCU with 32k ROM, 1024b RAM, Five Timers, SPI, SCI, I²C and CAN Interfaces, 64-Pin TQFP, Standard; Note: Pins 5-12, 25-27 and 43-46 are External Interrupt (EI) pins.; Note: Pin # 53 (Reserved) must be tied low.; Published: 26-May-2004; LatestRevisionDate: 13-Apr-2006; LatestRevisionNote: IPC-7351 Footprint Added.; DatasheetVersion: rev1.1, Oct-2003; PackageVersion: rev2.4, Jan-2002; PackageReference: TQFP64-0.8; Publisher: Altium Limited; PackageDescription: 64-Pin Thin Quad Flat Pack 0.8 mm Pitch; ComponentLink1Description: Manufacturer Link; ComponentLink1URL: http://www.st.com/; ComponentLink2Description: Datasheet; ComponentLink2URL: http://www.st.com/stonline/products/literature/ds/7601/st72521b.pdf
footprint TQFP64-0.8_N (Thin QFP, 64-Leads, Body 14x14mm, Pitch 0.8mm, IPC Medium Density)
footprint TQFP64-0.8_L (Thin QFP, 64-Leads, Body 14x14mm, Pitch 0.8mm, IPC High Density)
footprint TQFP64-0.8_M (Thin QFP, 64-Leads, Body 14x14mm, Pitch 0.8mm, IPC Low Density)
3D model ST72521B-TQFP64-0_8 (64-Pin Thin Quad Flat Pack 0.8 mm Pitch)
pins: 1 PE4 (HS) (io), 2 PE5 (HS) (io), 3 PE6 (HS) (io), 4 PE7 (HS) (io), 5 PB0/PWM3 (io), 6 PB1/PWM2 (io), 7 PB2/PWM1 (io), 8 PB3/PWM0 (io), 9 PB4 (HS)/ARTCLK (io), 10 PB5/ARTIC1 (io), 11 PB6/ARTIC2 (io), 12 PB7 (io), 13 PD0/AIN0 (io), 14 PD1/AIN1 (io), 15 PD2/AIN2 (io), 16 PD3/AIN3 (io), 17 PD4/AIN4 (io), 18 PD5/AIN5 (io), 19 PD6/AIN6 (io), 20 PD7/AIN7 (io), 21 VAREF (in), 22 VSSA (power), 23 VDD_3 (power), 24 VSS_3 (power), 25 PF0/MCO/AIN8 (io), 26 PF1 (HS)/BEEP (io), 27 PF2 (HS) (io), 28 PF3/OCMP2_A/AIN9 (io), 29 PF4/OCMP1_A/AIN10 (io), 30 PF5/ICAP2_A/AIN11 (io), 31 PF6 (HS)/ICAP1_A (io), 32 PF7 (HS)/EXTCLK_A (io), 33 VDD_0 (power), 34 VSS_0 (power), 35 PC0/OCMP2_B/AIN12 (io), 36 PC1/OCMP1_B/AIN13 (io), 37 PC2 (HS)/ICAP2_B (io), 38 PC3 (HS)/ICAP1_B (io), 39 PC4/MISO/ICCDATA (io), 40 PC5/MOSI/AIN14 (io), 41 PC6/SCK/ICCCLK (io), 42 PC7/~{SS}/AIN15 (io), 43 PA0 (io), 44 PA1 (io), 45 PA2 (io), 46 PA3 (HS) (io), 47 VDD_1 (power), 48 VSS_1 (power), 49 PA4 (HS) (io), 50 PA5 (HS) (io), 51 PA6 (HS)/SDAI (io), 52 PA7 (HS)/SCLI (io), 53 Reserved (in), 54 ~{RESET} (io), 55 EVD, 56 TLI (in), 57 VSS_2 (power), 58 OSC2 (out), 59 OSC1 (in), 60 VDD_2 (power), 61 PE0/TDO (io), 62 PE1/RDI (io), 63 PE2/CANTX (io), 64 PE3/CANRX (io)

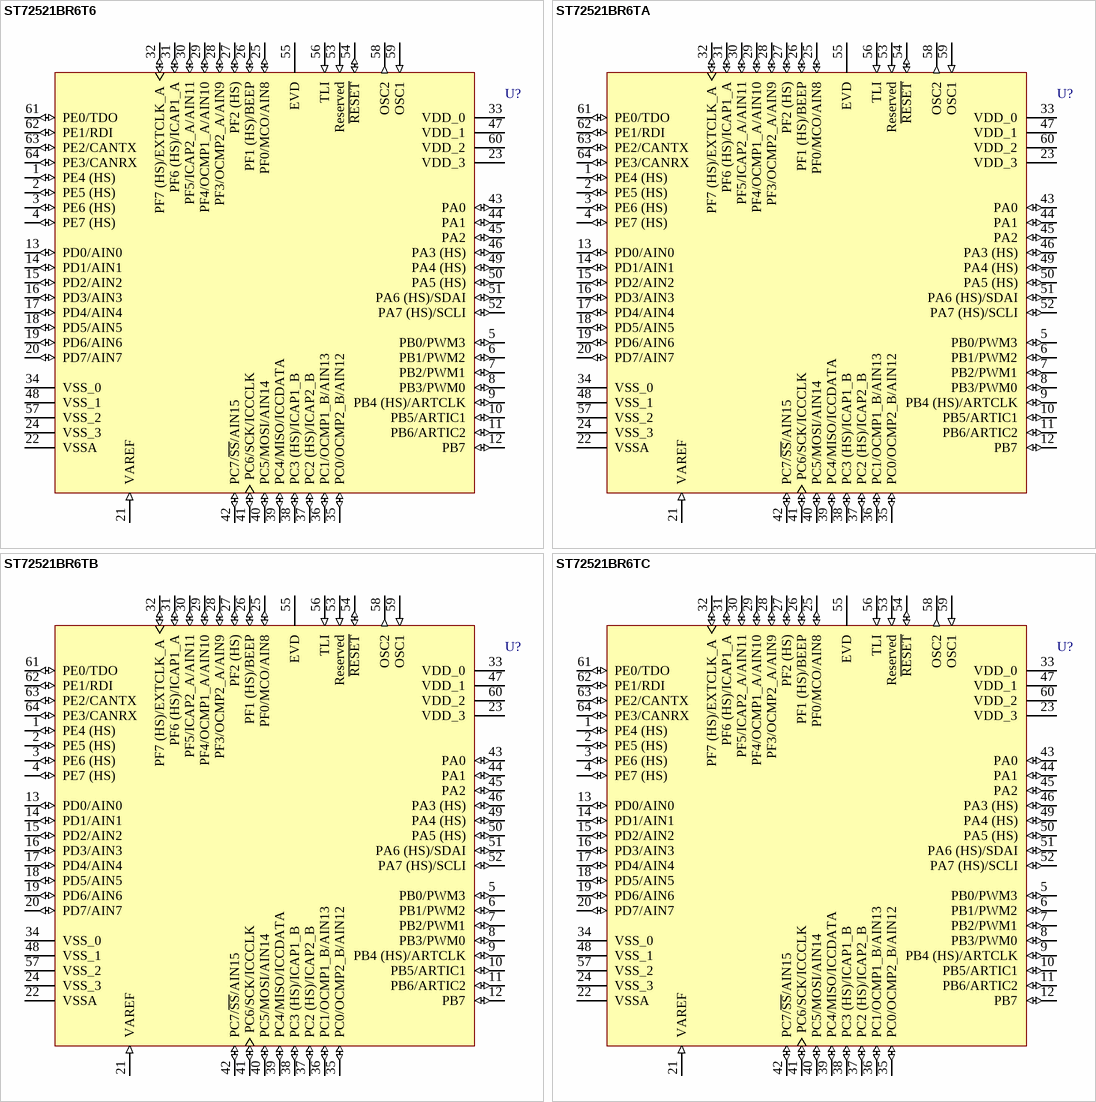
[diagram p153: symbols ST72521BR6T6 to ST72521BR6TC]

## ST72521BR6T6
designator U?
8-Bit MCU with 32k ROM, 1024b RAM, Five Timers, SPI, SCI, I²C and CAN Interfaces, 64-Pin TQFP, Standard; Note: Pins 5-12, 25-27 and 43-46 are External Interrupt (EI) pins.; Note: Pin # 53 (Reserved) must be tied low.; Published: 26-May-2004; LatestRevisionDate: 13-Apr-2006; LatestRevisionNote: IPC-7351 Footprint Added.; DatasheetVersion: rev1.1, Oct-2003; PackageVersion: rev2.4, Jan-2002; PackageReference: TQFP64-0.8; Publisher: Altium Limited; PackageDescription: 64-Pin Thin Quad Flat Pack 0.8 mm Pitch; ComponentLink1Description: Manufacturer Link; ComponentLink1URL: http://www.st.com/; ComponentLink2Description: Datasheet; ComponentLink2URL: http://www.st.com/stonline/products/literature/ds/7601/st72521b.pdf
footprint TQFP64-0.8_N (Thin QFP, 64-Leads, Body 14x14mm, Pitch 0.8mm, IPC Medium Density)
footprint TQFP64-0.8_L (Thin QFP, 64-Leads, Body 14x14mm, Pitch 0.8mm, IPC High Density)
footprint TQFP64-0.8_M (Thin QFP, 64-Leads, Body 14x14mm, Pitch 0.8mm, IPC Low Density)
3D model ST72521B-TQFP64-0_8 (64-Pin Thin Quad Flat Pack 0.8 mm Pitch)
pins: 1 PE4 (HS) (io), 2 PE5 (HS) (io), 3 PE6 (HS) (io), 4 PE7 (HS) (io), 5 PB0/PWM3 (io), 6 PB1/PWM2 (io), 7 PB2/PWM1 (io), 8 PB3/PWM0 (io), 9 PB4 (HS)/ARTCLK (io), 10 PB5/ARTIC1 (io), 11 PB6/ARTIC2 (io), 12 PB7 (io), 13 PD0/AIN0 (io), 14 PD1/AIN1 (io), 15 PD2/AIN2 (io), 16 PD3/AIN3 (io), 17 PD4/AIN4 (io), 18 PD5/AIN5 (io), 19 PD6/AIN6 (io), 20 PD7/AIN7 (io), 21 VAREF (in), 22 VSSA (power), 23 VDD_3 (power), 24 VSS_3 (power), 25 PF0/MCO/AIN8 (io), 26 PF1 (HS)/BEEP (io), 27 PF2 (HS) (io), 28 PF3/OCMP2_A/AIN9 (io), 29 PF4/OCMP1_A/AIN10 (io), 30 PF5/ICAP2_A/AIN11 (io), 31 PF6 (HS)/ICAP1_A (io), 32 PF7 (HS)/EXTCLK_A (io), 33 VDD_0 (power), 34 VSS_0 (power), 35 PC0/OCMP2_B/AIN12 (io), 36 PC1/OCMP1_B/AIN13 (io), 37 PC2 (HS)/ICAP2_B (io), 38 PC3 (HS)/ICAP1_B (io), 39 PC4/MISO/ICCDATA (io), 40 PC5/MOSI/AIN14 (io), 41 PC6/SCK/ICCCLK (io), 42 PC7/~{SS}/AIN15 (io), 43 PA0 (io), 44 PA1 (io), 45 PA2 (io), 46 PA3 (HS) (io), 47 VDD_1 (power), 48 VSS_1 (power), 49 PA4 (HS) (io), 50 PA5 (HS) (io), 51 PA6 (HS)/SDAI (io), 52 PA7 (HS)/SCLI (io), 53 Reserved (in), 54 ~{RESET} (io), 55 EVD, 56 TLI (in), 57 VSS_2 (power), 58 OSC2 (out), 59 OSC1 (in), 60 VDD_2 (power), 61 PE0/TDO (io), 62 PE1/RDI (io), 63 PE2/CANTX (io), 64 PE3/CANRX (io)

## ST72521BR6TA
designator U?
8-Bit MCU with 32k ROM, 1024b RAM, Five Timers, SPI, SCI, I²C and CAN Interfaces, 64-Pin TQFP, Automotive; Note: Pins 5-12, 25-27 and 43-46 are External Interrupt (EI) pins.; Note: Pin # 53 (Reserved) must be tied low.; Published: 26-May-2004; LatestRevisionDate: 13-Apr-2006; LatestRevisionNote: IPC-7351 Footprint Added.; DatasheetVersion: rev1.1, Oct-2003; PackageVersion: rev2.4, Jan-2002; PackageReference: TQFP64-0.8; Publisher: Altium Limited; PackageDescription: 64-Pin Thin Quad Flat Pack 0.8 mm Pitch; ComponentLink1Description: Manufacturer Link; ComponentLink1URL: http://www.st.com/; ComponentLink2Description: Datasheet; ComponentLink2URL: http://www.st.com/stonline/products/literature/ds/7601/st72521b.pdf
footprint TQFP64-0.8_N (Thin QFP, 64-Leads, Body 14x14mm, Pitch 0.8mm, IPC Medium Density)
footprint TQFP64-0.8_L (Thin QFP, 64-Leads, Body 14x14mm, Pitch 0.8mm, IPC High Density)
footprint TQFP64-0.8_M (Thin QFP, 64-Leads, Body 14x14mm, Pitch 0.8mm, IPC Low Density)
3D model ST72521B-TQFP64-0_8 (64-Pin Thin Quad Flat Pack 0.8 mm Pitch)
pins: 1 PE4 (HS) (io), 2 PE5 (HS) (io), 3 PE6 (HS) (io), 4 PE7 (HS) (io), 5 PB0/PWM3 (io), 6 PB1/PWM2 (io), 7 PB2/PWM1 (io), 8 PB3/PWM0 (io), 9 PB4 (HS)/ARTCLK (io), 10 PB5/ARTIC1 (io), 11 PB6/ARTIC2 (io), 12 PB7 (io), 13 PD0/AIN0 (io), 14 PD1/AIN1 (io), 15 PD2/AIN2 (io), 16 PD3/AIN3 (io), 17 PD4/AIN4 (io), 18 PD5/AIN5 (io), 19 PD6/AIN6 (io), 20 PD7/AIN7 (io), 21 VAREF (in), 22 VSSA (power), 23 VDD_3 (power), 24 VSS_3 (power), 25 PF0/MCO/AIN8 (io), 26 PF1 (HS)/BEEP (io), 27 PF2 (HS) (io), 28 PF3/OCMP2_A/AIN9 (io), 29 PF4/OCMP1_A/AIN10 (io), 30 PF5/ICAP2_A/AIN11 (io), 31 PF6 (HS)/ICAP1_A (io), 32 PF7 (HS)/EXTCLK_A (io), 33 VDD_0 (power), 34 VSS_0 (power), 35 PC0/OCMP2_B/AIN12 (io), 36 PC1/OCMP1_B/AIN13 (io), 37 PC2 (HS)/ICAP2_B (io), 38 PC3 (HS)/ICAP1_B (io), 39 PC4/MISO/ICCDATA (io), 40 PC5/MOSI/AIN14 (io), 41 PC6/SCK/ICCCLK (io), 42 PC7/~{SS}/AIN15 (io), 43 PA0 (io), 44 PA1 (io), 45 PA2 (io), 46 PA3 (HS) (io), 47 VDD_1 (power), 48 VSS_1 (power), 49 PA4 (HS) (io), 50 PA5 (HS) (io), 51 PA6 (HS)/SDAI (io), 52 PA7 (HS)/SCLI (io), 53 Reserved (in), 54 ~{RESET} (io), 55 EVD, 56 TLI (in), 57 VSS_2 (power), 58 OSC2 (out), 59 OSC1 (in), 60 VDD_2 (power), 61 PE0/TDO (io), 62 PE1/RDI (io), 63 PE2/CANTX (io), 64 PE3/CANRX (io)

## ST72521BR6TB
designator U?
8-Bit MCU with 32k ROM, 1024b RAM, Five Timers, SPI, SCI, I²C and CAN Interfaces, 64-Pin TQFP, Automotive; Note: Pins 5-12, 25-27 and 43-46 are External Interrupt (EI) pins.; Note: Pin # 53 (Reserved) must be tied low.; Published: 26-May-2004; LatestRevisionDate: 13-Apr-2006; LatestRevisionNote: IPC-7351 Footprint Added.; DatasheetVersion: rev1.1, Oct-2003; PackageVersion: rev2.4, Jan-2002; PackageReference: TQFP64-0.8; Publisher: Altium Limited; PackageDescription: 64-Pin Thin Quad Flat Pack 0.8 mm Pitch; ComponentLink1Description: Manufacturer Link; ComponentLink1URL: http://www.st.com/; ComponentLink2Description: Datasheet; ComponentLink2URL: http://www.st.com/stonline/products/literature/ds/7601/st72521b.pdf
footprint TQFP64-0.8_N (Thin QFP, 64-Leads, Body 14x14mm, Pitch 0.8mm, IPC Medium Density)
footprint TQFP64-0.8_L (Thin QFP, 64-Leads, Body 14x14mm, Pitch 0.8mm, IPC High Density)
footprint TQFP64-0.8_M (Thin QFP, 64-Leads, Body 14x14mm, Pitch 0.8mm, IPC Low Density)
3D model ST72521B-TQFP64-0_8 (64-Pin Thin Quad Flat Pack 0.8 mm Pitch)
pins: 1 PE4 (HS) (io), 2 PE5 (HS) (io), 3 PE6 (HS) (io), 4 PE7 (HS) (io), 5 PB0/PWM3 (io), 6 PB1/PWM2 (io), 7 PB2/PWM1 (io), 8 PB3/PWM0 (io), 9 PB4 (HS)/ARTCLK (io), 10 PB5/ARTIC1 (io), 11 PB6/ARTIC2 (io), 12 PB7 (io), 13 PD0/AIN0 (io), 14 PD1/AIN1 (io), 15 PD2/AIN2 (io), 16 PD3/AIN3 (io), 17 PD4/AIN4 (io), 18 PD5/AIN5 (io), 19 PD6/AIN6 (io), 20 PD7/AIN7 (io), 21 VAREF (in), 22 VSSA (power), 23 VDD_3 (power), 24 VSS_3 (power), 25 PF0/MCO/AIN8 (io), 26 PF1 (HS)/BEEP (io), 27 PF2 (HS) (io), 28 PF3/OCMP2_A/AIN9 (io), 29 PF4/OCMP1_A/AIN10 (io), 30 PF5/ICAP2_A/AIN11 (io), 31 PF6 (HS)/ICAP1_A (io), 32 PF7 (HS)/EXTCLK_A (io), 33 VDD_0 (power), 34 VSS_0 (power), 35 PC0/OCMP2_B/AIN12 (io), 36 PC1/OCMP1_B/AIN13 (io), 37 PC2 (HS)/ICAP2_B (io), 38 PC3 (HS)/ICAP1_B (io), 39 PC4/MISO/ICCDATA (io), 40 PC5/MOSI/AIN14 (io), 41 PC6/SCK/ICCCLK (io), 42 PC7/~{SS}/AIN15 (io), 43 PA0 (io), 44 PA1 (io), 45 PA2 (io), 46 PA3 (HS) (io), 47 VDD_1 (power), 48 VSS_1 (power), 49 PA4 (HS) (io), 50 PA5 (HS) (io), 51 PA6 (HS)/SDAI (io), 52 PA7 (HS)/SCLI (io), 53 Reserved (in), 54 ~{RESET} (io), 55 EVD, 56 TLI (in), 57 VSS_2 (power), 58 OSC2 (out), 59 OSC1 (in), 60 VDD_2 (power), 61 PE0/TDO (io), 62 PE1/RDI (io), 63 PE2/CANTX (io), 64 PE3/CANRX (io)

## ST72521BR6TC
designator U?
8-Bit MCU with 32k ROM, 1024b RAM, Five Timers, SPI, SCI, I²C and CAN Interfaces, 64-Pin TQFP, Automotive; Note: Pins 5-12, 25-27 and 43-46 are External Interrupt (EI) pins.; Note: Pin # 53 (Reserved) must be tied low.; Published: 26-May-2004; LatestRevisionDate: 13-Apr-2006; LatestRevisionNote: IPC-7351 Footprint Added.; DatasheetVersion: rev1.1, Oct-2003; PackageVersion: rev2.4, Jan-2002; PackageReference: TQFP64-0.8; Publisher: Altium Limited; PackageDescription: 64-Pin Thin Quad Flat Pack 0.8 mm Pitch; ComponentLink1Description: Manufacturer Link; ComponentLink1URL: http://www.st.com/; ComponentLink2Description: Datasheet; ComponentLink2URL: http://www.st.com/stonline/products/literature/ds/7601/st72521b.pdf
footprint TQFP64-0.8_N (Thin QFP, 64-Leads, Body 14x14mm, Pitch 0.8mm, IPC Medium Density)
footprint TQFP64-0.8_L (Thin QFP, 64-Leads, Body 14x14mm, Pitch 0.8mm, IPC High Density)
footprint TQFP64-0.8_M (Thin QFP, 64-Leads, Body 14x14mm, Pitch 0.8mm, IPC Low Density)
3D model ST72521B-TQFP64-0_8 (64-Pin Thin Quad Flat Pack 0.8 mm Pitch)
pins: 1 PE4 (HS) (io), 2 PE5 (HS) (io), 3 PE6 (HS) (io), 4 PE7 (HS) (io), 5 PB0/PWM3 (io), 6 PB1/PWM2 (io), 7 PB2/PWM1 (io), 8 PB3/PWM0 (io), 9 PB4 (HS)/ARTCLK (io), 10 PB5/ARTIC1 (io), 11 PB6/ARTIC2 (io), 12 PB7 (io), 13 PD0/AIN0 (io), 14 PD1/AIN1 (io), 15 PD2/AIN2 (io), 16 PD3/AIN3 (io), 17 PD4/AIN4 (io), 18 PD5/AIN5 (io), 19 PD6/AIN6 (io), 20 PD7/AIN7 (io), 21 VAREF (in), 22 VSSA (power), 23 VDD_3 (power), 24 VSS_3 (power), 25 PF0/MCO/AIN8 (io), 26 PF1 (HS)/BEEP (io), 27 PF2 (HS) (io), 28 PF3/OCMP2_A/AIN9 (io), 29 PF4/OCMP1_A/AIN10 (io), 30 PF5/ICAP2_A/AIN11 (io), 31 PF6 (HS)/ICAP1_A (io), 32 PF7 (HS)/EXTCLK_A (io), 33 VDD_0 (power), 34 VSS_0 (power), 35 PC0/OCMP2_B/AIN12 (io), 36 PC1/OCMP1_B/AIN13 (io), 37 PC2 (HS)/ICAP2_B (io), 38 PC3 (HS)/ICAP1_B (io), 39 PC4/MISO/ICCDATA (io), 40 PC5/MOSI/AIN14 (io), 41 PC6/SCK/ICCCLK (io), 42 PC7/~{SS}/AIN15 (io), 43 PA0 (io), 44 PA1 (io), 45 PA2 (io), 46 PA3 (HS) (io), 47 VDD_1 (power), 48 VSS_1 (power), 49 PA4 (HS) (io), 50 PA5 (HS) (io), 51 PA6 (HS)/SDAI (io), 52 PA7 (HS)/SCLI (io), 53 Reserved (in), 54 ~{RESET} (io), 55 EVD, 56 TLI (in), 57 VSS_2 (power), 58 OSC2 (out), 59 OSC1 (in), 60 VDD_2 (power), 61 PE0/TDO (io), 62 PE1/RDI (io), 63 PE2/CANTX (io), 64 PE3/CANRX (io)

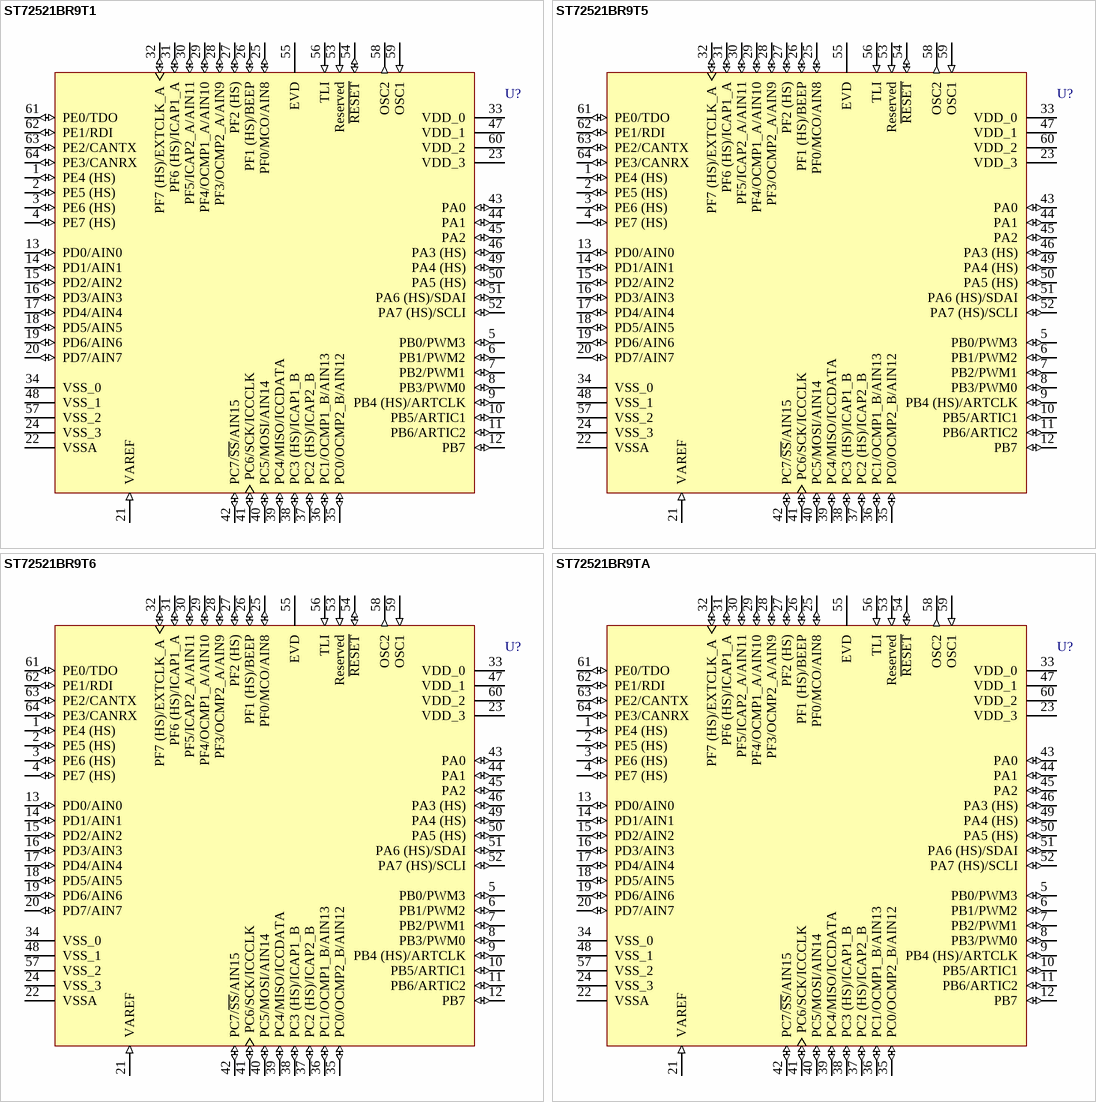
[diagram p154: symbols ST72521BR9T1 to ST72521BR9TA]

## ST72521BR9T1
designator U?
8-Bit MCU with 60k ROM, 2048b RAM, Five Timers, SPI, SCI, I²C and CAN Interfaces, 64-Pin TQFP, Standard; Note: Pins 5-12, 25-27 and 43-46 are External Interrupt (EI) pins.; Note: Pin # 53 (Reserved) must be tied low.; Published: 26-May-2004; LatestRevisionDate: 13-Apr-2006; LatestRevisionNote: IPC-7351 Footprint Added.; DatasheetVersion: rev1.1, Oct-2003; PackageVersion: rev2.4, Jan-2002; PackageReference: TQFP64-0.8; Publisher: Altium Limited; PackageDescription: 64-Pin Thin Quad Flat Pack 0.8 mm Pitch; ComponentLink1Description: Manufacturer Link; ComponentLink1URL: http://www.st.com/; ComponentLink2Description: Datasheet; ComponentLink2URL: http://www.st.com/stonline/products/literature/ds/7601/st72521b.pdf
footprint TQFP64-0.8_N (Thin QFP, 64-Leads, Body 14x14mm, Pitch 0.8mm, IPC Medium Density)
footprint TQFP64-0.8_L (Thin QFP, 64-Leads, Body 14x14mm, Pitch 0.8mm, IPC High Density)
footprint TQFP64-0.8_M (Thin QFP, 64-Leads, Body 14x14mm, Pitch 0.8mm, IPC Low Density)
3D model ST72521B-TQFP64-0_8 (64-Pin Thin Quad Flat Pack 0.8 mm Pitch)
pins: 1 PE4 (HS) (io), 2 PE5 (HS) (io), 3 PE6 (HS) (io), 4 PE7 (HS) (io), 5 PB0/PWM3 (io), 6 PB1/PWM2 (io), 7 PB2/PWM1 (io), 8 PB3/PWM0 (io), 9 PB4 (HS)/ARTCLK (io), 10 PB5/ARTIC1 (io), 11 PB6/ARTIC2 (io), 12 PB7 (io), 13 PD0/AIN0 (io), 14 PD1/AIN1 (io), 15 PD2/AIN2 (io), 16 PD3/AIN3 (io), 17 PD4/AIN4 (io), 18 PD5/AIN5 (io), 19 PD6/AIN6 (io), 20 PD7/AIN7 (io), 21 VAREF (in), 22 VSSA (power), 23 VDD_3 (power), 24 VSS_3 (power), 25 PF0/MCO/AIN8 (io), 26 PF1 (HS)/BEEP (io), 27 PF2 (HS) (io), 28 PF3/OCMP2_A/AIN9 (io), 29 PF4/OCMP1_A/AIN10 (io), 30 PF5/ICAP2_A/AIN11 (io), 31 PF6 (HS)/ICAP1_A (io), 32 PF7 (HS)/EXTCLK_A (io), 33 VDD_0 (power), 34 VSS_0 (power), 35 PC0/OCMP2_B/AIN12 (io), 36 PC1/OCMP1_B/AIN13 (io), 37 PC2 (HS)/ICAP2_B (io), 38 PC3 (HS)/ICAP1_B (io), 39 PC4/MISO/ICCDATA (io), 40 PC5/MOSI/AIN14 (io), 41 PC6/SCK/ICCCLK (io), 42 PC7/~{SS}/AIN15 (io), 43 PA0 (io), 44 PA1 (io), 45 PA2 (io), 46 PA3 (HS) (io), 47 VDD_1 (power), 48 VSS_1 (power), 49 PA4 (HS) (io), 50 PA5 (HS) (io), 51 PA6 (HS)/SDAI (io), 52 PA7 (HS)/SCLI (io), 53 Reserved (in), 54 ~{RESET} (io), 55 EVD, 56 TLI (in), 57 VSS_2 (power), 58 OSC2 (out), 59 OSC1 (in), 60 VDD_2 (power), 61 PE0/TDO (io), 62 PE1/RDI (io), 63 PE2/CANTX (io), 64 PE3/CANRX (io)

## ST72521BR9T5
designator U?
8-Bit MCU with 60k ROM, 2048b RAM, Five Timers, SPI, SCI, I²C and CAN Interfaces, 64-Pin TQFP, Standard; Note: Pins 5-12, 25-27 and 43-46 are External Interrupt (EI) pins.; Note: Pin # 53 (Reserved) must be tied low.; Published: 26-May-2004; LatestRevisionDate: 13-Apr-2006; LatestRevisionNote: IPC-7351 Footprint Added.; DatasheetVersion: rev1.1, Oct-2003; PackageVersion: rev2.4, Jan-2002; PackageReference: TQFP64-0.8; Publisher: Altium Limited; PackageDescription: 64-Pin Thin Quad Flat Pack 0.8 mm Pitch; ComponentLink1Description: Manufacturer Link; ComponentLink1URL: http://www.st.com/; ComponentLink2Description: Datasheet; ComponentLink2URL: http://www.st.com/stonline/products/literature/ds/7601/st72521b.pdf
footprint TQFP64-0.8_N (Thin QFP, 64-Leads, Body 14x14mm, Pitch 0.8mm, IPC Medium Density)
footprint TQFP64-0.8_L (Thin QFP, 64-Leads, Body 14x14mm, Pitch 0.8mm, IPC High Density)
footprint TQFP64-0.8_M (Thin QFP, 64-Leads, Body 14x14mm, Pitch 0.8mm, IPC Low Density)
3D model ST72521B-TQFP64-0_8 (64-Pin Thin Quad Flat Pack 0.8 mm Pitch)
pins: 1 PE4 (HS) (io), 2 PE5 (HS) (io), 3 PE6 (HS) (io), 4 PE7 (HS) (io), 5 PB0/PWM3 (io), 6 PB1/PWM2 (io), 7 PB2/PWM1 (io), 8 PB3/PWM0 (io), 9 PB4 (HS)/ARTCLK (io), 10 PB5/ARTIC1 (io), 11 PB6/ARTIC2 (io), 12 PB7 (io), 13 PD0/AIN0 (io), 14 PD1/AIN1 (io), 15 PD2/AIN2 (io), 16 PD3/AIN3 (io), 17 PD4/AIN4 (io), 18 PD5/AIN5 (io), 19 PD6/AIN6 (io), 20 PD7/AIN7 (io), 21 VAREF (in), 22 VSSA (power), 23 VDD_3 (power), 24 VSS_3 (power), 25 PF0/MCO/AIN8 (io), 26 PF1 (HS)/BEEP (io), 27 PF2 (HS) (io), 28 PF3/OCMP2_A/AIN9 (io), 29 PF4/OCMP1_A/AIN10 (io), 30 PF5/ICAP2_A/AIN11 (io), 31 PF6 (HS)/ICAP1_A (io), 32 PF7 (HS)/EXTCLK_A (io), 33 VDD_0 (power), 34 VSS_0 (power), 35 PC0/OCMP2_B/AIN12 (io), 36 PC1/OCMP1_B/AIN13 (io), 37 PC2 (HS)/ICAP2_B (io), 38 PC3 (HS)/ICAP1_B (io), 39 PC4/MISO/ICCDATA (io), 40 PC5/MOSI/AIN14 (io), 41 PC6/SCK/ICCCLK (io), 42 PC7/~{SS}/AIN15 (io), 43 PA0 (io), 44 PA1 (io), 45 PA2 (io), 46 PA3 (HS) (io), 47 VDD_1 (power), 48 VSS_1 (power), 49 PA4 (HS) (io), 50 PA5 (HS) (io), 51 PA6 (HS)/SDAI (io), 52 PA7 (HS)/SCLI (io), 53 Reserved (in), 54 ~{RESET} (io), 55 EVD, 56 TLI (in), 57 VSS_2 (power), 58 OSC2 (out), 59 OSC1 (in), 60 VDD_2 (power), 61 PE0/TDO (io), 62 PE1/RDI (io), 63 PE2/CANTX (io), 64 PE3/CANRX (io)

## ST72521BR9T6
designator U?
8-Bit MCU with 60k ROM, 2048b RAM, Five Timers, SPI, SCI, I²C and CAN Interfaces, 64-Pin TQFP, Standard; Note: Pins 5-12, 25-27 and 43-46 are External Interrupt (EI) pins.; Note: Pin # 53 (Reserved) must be tied low.; Published: 26-May-2004; LatestRevisionDate: 13-Apr-2006; LatestRevisionNote: IPC-7351 Footprint Added.; DatasheetVersion: rev1.1, Oct-2003; PackageVersion: rev2.4, Jan-2002; PackageReference: TQFP64-0.8; Publisher: Altium Limited; PackageDescription: 64-Pin Thin Quad Flat Pack 0.8 mm Pitch; ComponentLink1Description: Manufacturer Link; ComponentLink1URL: http://www.st.com/; ComponentLink2Description: Datasheet; ComponentLink2URL: http://www.st.com/stonline/products/literature/ds/7601/st72521b.pdf
footprint TQFP64-0.8_N (Thin QFP, 64-Leads, Body 14x14mm, Pitch 0.8mm, IPC Medium Density)
footprint TQFP64-0.8_L (Thin QFP, 64-Leads, Body 14x14mm, Pitch 0.8mm, IPC High Density)
footprint TQFP64-0.8_M (Thin QFP, 64-Leads, Body 14x14mm, Pitch 0.8mm, IPC Low Density)
3D model ST72521B-TQFP64-0_8 (64-Pin Thin Quad Flat Pack 0.8 mm Pitch)
pins: 1 PE4 (HS) (io), 2 PE5 (HS) (io), 3 PE6 (HS) (io), 4 PE7 (HS) (io), 5 PB0/PWM3 (io), 6 PB1/PWM2 (io), 7 PB2/PWM1 (io), 8 PB3/PWM0 (io), 9 PB4 (HS)/ARTCLK (io), 10 PB5/ARTIC1 (io), 11 PB6/ARTIC2 (io), 12 PB7 (io), 13 PD0/AIN0 (io), 14 PD1/AIN1 (io), 15 PD2/AIN2 (io), 16 PD3/AIN3 (io), 17 PD4/AIN4 (io), 18 PD5/AIN5 (io), 19 PD6/AIN6 (io), 20 PD7/AIN7 (io), 21 VAREF (in), 22 VSSA (power), 23 VDD_3 (power), 24 VSS_3 (power), 25 PF0/MCO/AIN8 (io), 26 PF1 (HS)/BEEP (io), 27 PF2 (HS) (io), 28 PF3/OCMP2_A/AIN9 (io), 29 PF4/OCMP1_A/AIN10 (io), 30 PF5/ICAP2_A/AIN11 (io), 31 PF6 (HS)/ICAP1_A (io), 32 PF7 (HS)/EXTCLK_A (io), 33 VDD_0 (power), 34 VSS_0 (power), 35 PC0/OCMP2_B/AIN12 (io), 36 PC1/OCMP1_B/AIN13 (io), 37 PC2 (HS)/ICAP2_B (io), 38 PC3 (HS)/ICAP1_B (io), 39 PC4/MISO/ICCDATA (io), 40 PC5/MOSI/AIN14 (io), 41 PC6/SCK/ICCCLK (io), 42 PC7/~{SS}/AIN15 (io), 43 PA0 (io), 44 PA1 (io), 45 PA2 (io), 46 PA3 (HS) (io), 47 VDD_1 (power), 48 VSS_1 (power), 49 PA4 (HS) (io), 50 PA5 (HS) (io), 51 PA6 (HS)/SDAI (io), 52 PA7 (HS)/SCLI (io), 53 Reserved (in), 54 ~{RESET} (io), 55 EVD, 56 TLI (in), 57 VSS_2 (power), 58 OSC2 (out), 59 OSC1 (in), 60 VDD_2 (power), 61 PE0/TDO (io), 62 PE1/RDI (io), 63 PE2/CANTX (io), 64 PE3/CANRX (io)

## ST72521BR9TA
designator U?
8-Bit MCU with 60k ROM, 2048b RAM, Five Timers, SPI, SCI, I²C and CAN Interfaces, 64-Pin TQFP, Automotive; Note: Pins 5-12, 25-27 and 43-46 are External Interrupt (EI) pins.; Note: Pin # 53 (Reserved) must be tied low.; Published: 26-May-2004; LatestRevisionDate: 13-Apr-2006; LatestRevisionNote: IPC-7351 Footprint Added.; DatasheetVersion: rev1.1, Oct-2003; PackageVersion: rev2.4, Jan-2002; PackageReference: TQFP64-0.8; Publisher: Altium Limited; PackageDescription: 64-Pin Thin Quad Flat Pack 0.8 mm Pitch; ComponentLink1Description: Manufacturer Link; ComponentLink1URL: http://www.st.com/; ComponentLink2Description: Datasheet; ComponentLink2URL: http://www.st.com/stonline/products/literature/ds/7601/st72521b.pdf
footprint TQFP64-0.8_N (Thin QFP, 64-Leads, Body 14x14mm, Pitch 0.8mm, IPC Medium Density)
footprint TQFP64-0.8_L (Thin QFP, 64-Leads, Body 14x14mm, Pitch 0.8mm, IPC High Density)
footprint TQFP64-0.8_M (Thin QFP, 64-Leads, Body 14x14mm, Pitch 0.8mm, IPC Low Density)
3D model ST72521B-TQFP64-0_8 (64-Pin Thin Quad Flat Pack 0.8 mm Pitch)
pins: 1 PE4 (HS) (io), 2 PE5 (HS) (io), 3 PE6 (HS) (io), 4 PE7 (HS) (io), 5 PB0/PWM3 (io), 6 PB1/PWM2 (io), 7 PB2/PWM1 (io), 8 PB3/PWM0 (io), 9 PB4 (HS)/ARTCLK (io), 10 PB5/ARTIC1 (io), 11 PB6/ARTIC2 (io), 12 PB7 (io), 13 PD0/AIN0 (io), 14 PD1/AIN1 (io), 15 PD2/AIN2 (io), 16 PD3/AIN3 (io), 17 PD4/AIN4 (io), 18 PD5/AIN5 (io), 19 PD6/AIN6 (io), 20 PD7/AIN7 (io), 21 VAREF (in), 22 VSSA (power), 23 VDD_3 (power), 24 VSS_3 (power), 25 PF0/MCO/AIN8 (io), 26 PF1 (HS)/BEEP (io), 27 PF2 (HS) (io), 28 PF3/OCMP2_A/AIN9 (io), 29 PF4/OCMP1_A/AIN10 (io), 30 PF5/ICAP2_A/AIN11 (io), 31 PF6 (HS)/ICAP1_A (io), 32 PF7 (HS)/EXTCLK_A (io), 33 VDD_0 (power), 34 VSS_0 (power), 35 PC0/OCMP2_B/AIN12 (io), 36 PC1/OCMP1_B/AIN13 (io), 37 PC2 (HS)/ICAP2_B (io), 38 PC3 (HS)/ICAP1_B (io), 39 PC4/MISO/ICCDATA (io), 40 PC5/MOSI/AIN14 (io), 41 PC6/SCK/ICCCLK (io), 42 PC7/~{SS}/AIN15 (io), 43 PA0 (io), 44 PA1 (io), 45 PA2 (io), 46 PA3 (HS) (io), 47 VDD_1 (power), 48 VSS_1 (power), 49 PA4 (HS) (io), 50 PA5 (HS) (io), 51 PA6 (HS)/SDAI (io), 52 PA7 (HS)/SCLI (io), 53 Reserved (in), 54 ~{RESET} (io), 55 EVD, 56 TLI (in), 57 VSS_2 (power), 58 OSC2 (out), 59 OSC1 (in), 60 VDD_2 (power), 61 PE0/TDO (io), 62 PE1/RDI (io), 63 PE2/CANTX (io), 64 PE3/CANRX (io)

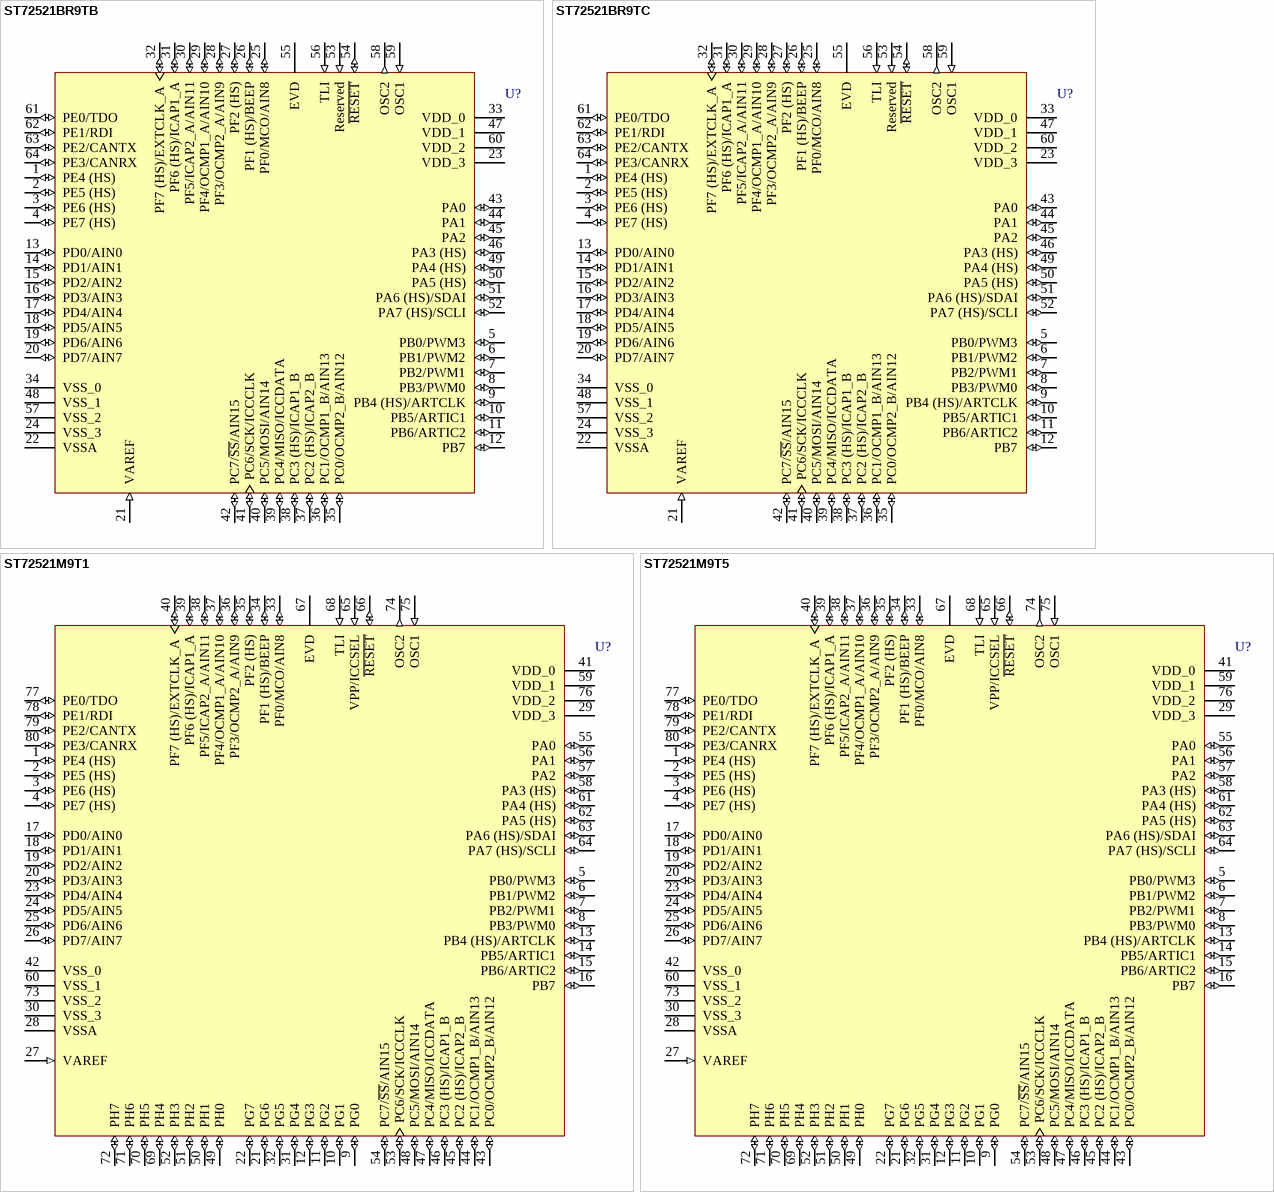
[diagram p155: symbols ST72521BR9TB to ST72521M9T5]